# Altium integrated library STMicroelectronics STM32 F4.IntLib: 134 symbols (part 21 of 25)
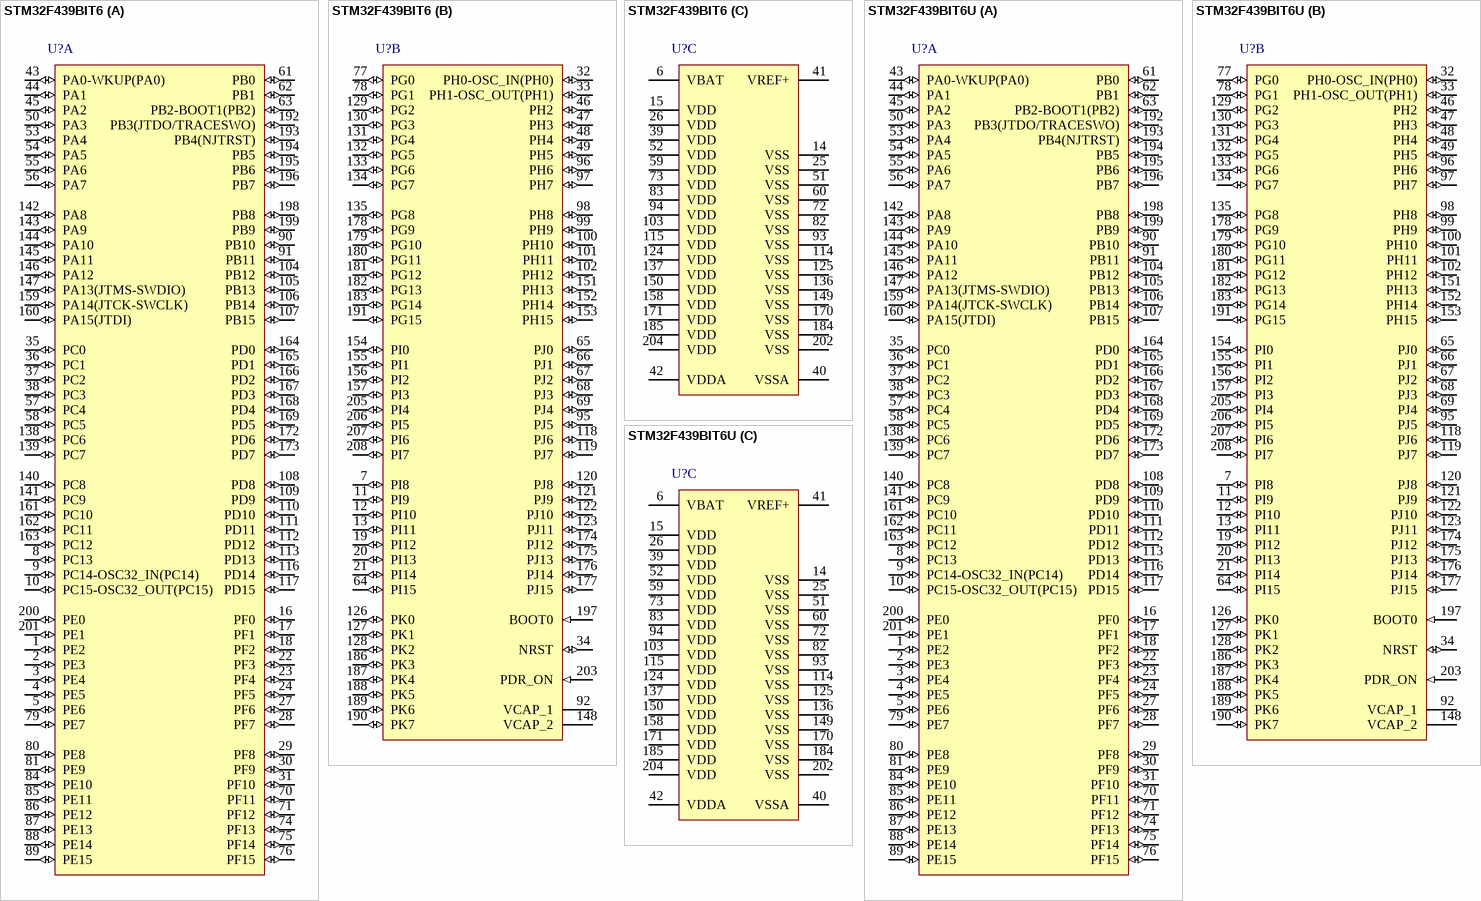
[diagram p59: symbols STM32F439BIT6 to STM32F439BIT6U]

## STM32F439BIT6
designator U?
ARM Cortex-M4 32-bit MCU+FPU, 225 DMIPS, 2048 kB Flash, 256 kB Internal RAM, 168 I/Os, 208-pin LQFP, -40 to 85 degC, Tray
footprint STM-LQFP208_N (QFP, 208-Leads, Body 28x28mm, Pitch 0.5mm, IPC Medium Density)
footprint STM-LQFP208_L (QFP, 208-Leads, Body 28x28mm, Pitch 0.5mm, IPC High Density)
footprint STM-LQFP208_M (QFP, 208-Leads, Body 28x28mm, Pitch 0.5mm, IPC Low Density)
part A pins: 1 PE2 (io) "PE2/TRACECLK,SPI4_SCK,SAI1_MCLK_A,ETH_MII_TXD3,FMC_A23,EVENTOUT", 2 PE3 (io) "PE3/TRACED0,SAI1_SD_B,FMC_A19,EVENTOUT", 3 PE4 (io) "PE4/TRACED1,SPI4_NSS,SAI1_FS_A,FMC_A20,DCMI_D4,LCD_B0,EVENTOUT", 4 PE5 (io) "PE5/TRACED2,TIM9_CH1,SPI4_MISO,SAI1_SCK_A,FMC_A21,DCMI_D6,LCD_G0,EVENTOUT", 5 PE6 (io) "PE6/TRACED3,TIM9_CH2,SPI4_MOSI,SAI1_SD_A,FMC_A22,DCMI_D7,LCD_G1,EVENTOUT", 8 PC13 (io) "PC13/EVENTOUT/TAMP_1", 9 PC14-OSC32_IN(PC14) (io) "PC14-OSC32_IN(PC14)/EVENTOUT/OSC32_IN", 10 PC15-OSC32_OUT(PC15) (io) "PC15-OSC32_OUT(PC15)/EVENTOUT/OSC32_OUT", 16 PF0 (io) "PF0/I2C2_SDA,FMC_A0,EVENTOUT", 17 PF1 (io) "PF1/I2C2_SCL,FMC_A1,EVENTOUT", 18 PF2 (io) "PF2/I2C2_SMBA,FMC_A2,EVENTOUT", 22 PF3 (io) "PF3/FMC_A3,EVENTOUT/ADC3_IN9", 23 PF4 (io) "PF4/FMC_A4,EVENTOUT/ADC3_IN14", 24 PF5 (io) "PF5/FMC_A5,EVENTOUT/ADC3_IN15", 27 PF6 (io) "PF6/TIM10_CH1,SPI5_NSS,SAI1_SD_B,UART7_RX,FMC_NIORD,EVENTOUT/ADC3_IN4", 28 PF7 (io) "PF7/TIM11_CH1,SPI5_SCK,SAI1_MCLK_B,UART7_TX,FMC_NREG,EVENTOUT/ADC3_IN5", 29 PF8 (io) "PF8/SPI5_MISO,SAI1_SCK_B,TIM13_CH1,FMC_NIOWR,EVENTOUT/ADC3_IN6", 30 PF9 (io) "PF9/SPI5_MOSI,SAI1_FS_B,TIM14_CH1,FMC_CD,EVENTOUT/ADC3_IN7", 31 PF10 (io) "PF10/FMC_INTR,DCMI_D11,LCD_DE,EVENTOUT/ADC3_IN8", 35 PC0 (io) "PC0/OTG_HS_ULPI_STP,FMC_SDNWE,EVENTOUT/ADC123_IN10", 36 PC1 (io) "PC1/ETH_MDC,EVENTOUT/ADC123_IN11", 37 PC2 (io) "PC2/SPI2_MISO,I2S2ext_SD,OTG_HS_ULPI_DIR,ETH_MII_TXD2,FMC_SDNE0,EVENTOUT/ADC123_IN12", 38 PC3 (io) "PC3/SPI2_MOSI/I2S2_SD,OTG_HS_ULPI_NXT,ETH_MII_TX_CLK,FMC_SDCKE0,EVENTOUT/ADC123_IN13", 43 PA0-WKUP(PA0) (io) "PA0-WKUP(PA0)/TIM2_CH1/TIM2_ETR,TIM5_CH1,TIM8_ETR,USART2_CTS,UART4_TX,ETH_MII_CRS,EVENTOUT/ADC123_IN0/WKUP", 44 PA1 (io) "PA1/TIM2_CH2,TIM5_CH2,USART2_RTS,UART4_RX,ETH_MII_RX_CLK/ETH_RMII_REF_CLK,EVENTOUT/ADC123_IN1", 45 PA2 (io) "PA2/TIM2_CH3,TIM5_CH3,TIM9_CH1,USART2_TX,ETH_MDIO,EVENTOUT/ADC123_IN2", 50 PA3 (io) "PA3/TIM2_CH4,TIM5_CH4,TIM9_CH2,USART2_RX,OTG_HS_ULPI_D0,ETH_MII_COL,LCD_B5,EVENTOUT/ADC123_IN3", 53 PA4 (io) "PA4/SPI1_NSS,SPI3_NSS/I2S3_WS,USART2_CK,OTG_HS_SOF,DCMI_HSYNC,LCD_VSYNC,EVENTOUT/ADC12_IN4/DAC_OUT1", 54 PA5 (io) "PA5/TIM2_CH1/TIM2_ETR,TIM8_CH1N,SPI1_SCK,OTG_HS_ULPI_CK,EVENTOUT/ADC12_IN5/DAC_OUT2", 55 PA6 (io) "PA6/TIM1_BKIN,TIM3_CH1,TIM8_BKIN,SPI1_MISO,TIM13_CH1,DCMI_PIXCLK,LCD_G2,EVENTOUT/ADC12_IN6", 56 PA7 (io) "PA7/TIM1_CH1N,TIM3_CH2,TIM8_CH1N,SPI1_MOSI,TIM14_CH1,ETH_MII_RX_DV/ETH_RMII_CRS_DV,EVENTOUT/ADC12_IN7", 57 PC4 (io) "PC4/ETH_MII_RXD0/ETH_RMII_RXD0,EVENTOUT/ADC12_IN14", 58 PC5 (io) "PC5/ETH_MII_RXD1/ETH_RMII_RXD1,EVENTOUT/ADC12_IN15", 61 PB0 (io) "PB0/TIM1_CH2N,TIM3_CH3,TIM8_CH2N,LCD_R3,OTG_HS_ULPI_D1,ETH_MII_RXD2,EVENTOUT/ADC12_IN8", 62 PB1 (io) "PB1/TIM1_CH3N,TIM3_CH4,TIM8_CH3N,LCD_R6,OTG_HS_ULPI_D2,ETH_MII_RXD3,EVENTOUT/ADC12_IN9", 63 PB2-BOOT1(PB2) (io) "PB2-BOOT1(PB2)/EVENTOUT", 70 PF11 (io) "PF11/SPI5_MOSI,FMC_SDNRAS,DCMI_D12,EVENTOUT", 71 PF12 (io) "PF12/FMC_A6,EVENTOUT", 74 PF13 (io) "PF13/FMC_A7,EVENTOUT", 75 PF14 (io) "PF14/FMC_A8,EVENTOUT", 76 PF15 (io) "PF15/FMC_A9,EVENTOUT", 79 PE7 (io) "PE7/TIM1_ETR,UART7_RX,FMC_D4,EVENTOUT", 80 PE8 (io) "PE8/TIM1_CH1N,UART7_TX,FMC_D5,EVENTOUT", 81 PE9 (io) "PE9/TIM1_CH1,FMC_D6,EVENTOUT", 84 PE10 (io) "PE10/TIM1_CH2N,FMC_D7,EVENTOUT", 85 PE11 (io) "PE11/TIM1_CH2,SPI4_NSS,FMC_D8,LCD_G3,EVENTOUT", 86 PE12 (io) "PE12/TIM1_CH3N,SPI4_SCK,FMC_D9,LCD_B4,EVENTOUT", 87 PE13 (io) "PE13/TIM1_CH3,SPI4_MISO,FMC_D10,LCD_DE,EVENTOUT", 88 PE14 (io) "PE14/TIM1_CH4,SPI4_MOSI,FMC_D11,LCD_CLK,EVENTOUT", 89 PE15 (io) "PE15/TIM1_BKIN,FMC_D12,LCD_R7,EVENTOUT", 90 PB10 (io) "PB10/TIM2_CH3,I2C2_SCL,SPI2_SCK/I2S2_CK,USART3_TX,OTG_HS_ULPI_D3,ETH_MII_RX_ER,LCD_G4,EVENTOUT", 91 PB11 (io) "PB11/TIM2_CH4,I2C2_SDA,USART3_RX,OTG_HS_ULPI_D4,ETH_MII_TX_EN/ETH_RMII_TX_EN,LCD_G5,EVENTOUT", 104 PB12 (io) "PB12/TIM1_BKIN,I2C2_SMBA,SPI2_NSS/I2S2_WS,USART3_CK,CAN2_RX,OTG_HS_ULPI_D5,ETH_MII_TXD0/ETH_RMII_TXD0,OTG_HS_ID,EVENTOUT", 105 PB13 (io) "PB13/TIM1_CH1N,SPI2_SCK/I2S2_CK,USART3_CTS,CAN2_TX,OTG_HS_ULPI_D6,ETH_MII_TXD1/ETH_RMII_TXD1,EVENTOUT/OTG_HS_VBUS", 106 PB14 (io) "PB14/TIM1_CH2N,TIM8_CH2N,SPI2_MISO,I2S2ext_SD,USART3_RTS,TIM12_CH1,EVENTOUT/OTG_HS_DM", 107 PB15 (io) "PB15/RTC_REFIN,TIM1_CH3N,TIM8_CH3N,SPI2_MOSI/I2S2_SD,TIM12_CH2,EVENTOUT/OTG_HS_DP", 108 PD8 (io) "PD8/USART3_TX,FMC_D13,EVENTOUT", 109 PD9 (io) "PD9/USART3_RX,FMC_D14,EVENTOUT", 110 PD10 (io) "PD10/USART3_CK,FMC_D15,LCD_B3,EVENTOUT", 111 PD11 (io) "PD11/USART3_CTS,FMC_A16,EVENTOUT", 112 PD12 (io) "PD12/TIM4_CH1,USART3_RTS,FMC_A17,EVENTOUT", 113 PD13 (io) "PD13/TIM4_CH2,FMC_A18,EVENTOUT", 116 PD14 (io) "PD14/TIM4_CH3,FMC_D0,EVENTOUT", 117 PD15 (io) "PD15/TIM4_CH4,FMC_D1,EVENTOUT", 138 PC6 (io) "PC6/TIM3_CH1,TIM8_CH1,I2S2_MCK,USART6_TX,SDIO_D6,DCMI_D0,LCD_HSYNC,EVENTOUT", 139 PC7 (io) "PC7/TIM3_CH2,TIM8_CH2,I2S3_MCK,USART6_RX,SDIO_D7,DCMI_D1,LCD_G6,EVENTOUT", 140 PC8 (io) "PC8/TIM3_CH3,TIM8_CH3,USART6_CK,SDIO_D0,DCMI_D2,EVENTOUT", 141 PC9 (io) "PC9/MCO2,TIM3_CH4,TIM8_CH4,I2C3_SDA,I2S_CKIN,SDIO_D1,DCMI_D3,EVENTOUT", 142 PA8 (io) "PA8/MCO1,TIM1_CH1,I2C3_SCL,USART1_CK,OTG_FS_SOF,LCD_R6,EVENTOUT", 143 PA9 (io) "PA9/TIM1_CH2,I2C3_SMBA,USART1_TX,DCMI_D0,EVENTOUT/OTG_FS_VBUS", 144 PA10 (io) "PA10/TIM1_CH3,USART1_RX,OTG_FS_ID,DCMI_D1,EVENTOUT", 145 PA11 (io) "PA11/TIM1_CH4,USART1_CTS,CAN1_RX,LCD_R4,EVENTOUT/OTG_FS_DM", 146 PA12 (io) "PA12/TIM1_ETR,USART1_RTS,CAN1_TX,LCD_R5,EVENTOUT/OTG_FS_DP", 147 PA13(JTMS-SWDIO) (io) "PA13(JTMS-SWDIO)/JTMS-SWDIO,EVENTOUT", 159 PA14(JTCK-SWCLK) (io) "PA14(JTCK-SWCLK)/JTCK-SWCLK/EVENTOUT", 160 PA15(JTDI) (io) "PA15(JTDI)/JTDI,TIM2_CH1/TIM2_ETR,SPI1_NSS,SPI3_NSS/I2S3_WS,EVENTOUT", 161 PC10 (io) "PC10/SPI3_SCK/I2S3_CK,USART3_TX,UART4_TX,SDIO_D2,DCMI_D8,LCD_R2,EVENTOUT", 162 PC11 (io) "PC11/I2S3ext_SD,SPI3_MISO,USART3_RX,UART4_RX,SDIO_D3,DCMI_D4,EVENTOUT", 163 PC12 (io) "PC12/SPI3_MOSI/I2S3_SD,USART3_CK,UART5_TX,SDIO_CK,DCMI_D9,EVENTOUT", 164 PD0 (io) "PD0/CAN1_RX,FMC_D2,EVENTOUT", 165 PD1 (io) "PD1/CAN1_TX,FMC_D3,EVENTOUT", 166 PD2 (io) "PD2/TIM3_ETR,UART5_RX,SDIO_CMD,DCMI_D11,EVENTOUT", 167 PD3 (io) "PD3/SPI2_SCK/I2S2_CK,USART2_CTS,FMC_CLK,DCMI_D5,LCD_G7,EVENTOUT", 168 PD4 (io) "PD4/USART2_RTS,FMC_NOE,EVENTOUT", 169 PD5 (io) "PD5/USART2_TX,FMC_NWE,EVENTOUT", 172 PD6 (io) "PD6/SPI3_MOSI/I2S3_SD,SAI1_SD_A,USART2_RX,FMC_NWAIT,DCMI_D10,LCD_B2,EVENTOUT", 173 PD7 (io) "PD7/USART2_CK,FMC_NE1/FMC_NCE2,EVENTOUT", 192 PB3(JTDO/TRACESWO) (io) "PB3(JTDO/TRACESWO)/JTDO/TRACESWO,TIM2_CH2,SPI1_SCK,SPI3_SCK/I2S3_CK,EVENTOUT", 193 PB4(NJTRST) (io) "PB4(NJTRST)/NJTRST,TIM3_CH1,SPI1_MISO,SPI3_MISO,I2S3ext_SD,EVENTOUT", 194 PB5 (io) "PB5/TIM3_CH2,I2C1_SMBA,SPI1_MOSI,SPI3_MOSI/I2S3_SD,CAN2_RX,OTG_HS_ULPI_D7,ETH_PPS_OUT,FMC_SDCKE1,DCMI_D10,EVENTOUT", 195 PB6 (io) "PB6/TIM4_CH1,I2C1_SCL,USART1_TX,CAN2_TX,FMC_SDNE1,DCMI_D5,EVENTOUT", 196 PB7 (io) "PB7/TIM4_CH2,I2C1_SDA,USART1_RX,FMC_NL,DCMI_VSYNC,EVENTOUT", 198 PB8 (io) "PB8/TIM4_CH3,TIM10_CH1,I2C1_SCL,CAN1_RX,ETH_MII_TXD3,SDIO_D4,DCMI_D6,LCD_B6,EVENTOUT", 199 PB9 (io) "PB9/TIM4_CH4,TIM11_CH1,I2C1_SDA,SPI2_NSS/I2S2_WS,CAN1_TX,SDIO_D5,DCMI_D7,LCD_B7,EVENTOUT", 200 PE0 (io) "PE0/TIM4_ETR,UART8_RX,FMC_NBL0,DCMI_D2,EVENTOUT", 201 PE1 (io) "PE1/UART8_TX,FMC_NBL1,DCMI_D3,EVENTOUT"
part B pins: 7 PI8 (io) "PI8/EVENTOUT/TAMP_2", 11 PI9 (io) "PI9/CAN1_RX,FMC_D30,LCD_VSYNC,EVENTOUT", 12 PI10 (io) "PI10/ETH_MII_RX_ER,FMC_D31,LCD_HSYNC,EVENTOUT", 13 PI11 (io) "PI11/OTG_HS_ULPI_DIR,EVENTOUT", 19 PI12 (io) "PI12/LCD_HSYNC,EVENTOUT", 20 PI13 (io) "PI13/LCD_VSYNC,EVENTOUT", 21 PI14 (io) "PI14/LCD_CLK,EVENTOUT", 32 PH0-OSC_IN(PH0) (io) "PH0-OSC_IN(PH0)/EVENTOUT/OSC_IN", 33 PH1-OSC_OUT(PH1) (io) "PH1-OSC_OUT(PH1)/EVENTOUT/OSC_OUT", 34 NRST (io), 46 PH2 (io) "PH2/ETH_MII_CRS,FMC_SDCKE0,LCD_R0,EVENTOUT", 47 PH3 (io) "PH3/ETH_MII_COL,FMC_SDNE0,LCD_R1,EVENTOUT", 48 PH4 (io) "PH4/I2C2_SCL,OTG_HS_ULPI_NXT,EVENTOUT", 49 PH5 (io) "PH5/I2C2_SDA,SPI5_NSS,FMC_SDNWE,EVENTOUT", 64 PI15 (io) "PI15/LCD_R0,EVENTOUT", 65 PJ0 (io) "PJ0/LCD_R1,EVENTOUT", 66 PJ1 (io) "PJ1/LCD_R2,EVENTOUT", 67 PJ2 (io) "PJ2/LCD_R3,EVENTOUT", 68 PJ3 (io) "PJ3/LCD_R4,EVENTOUT", 69 PJ4 (io) "PJ4/LCD_R5,EVENTOUT", 77 PG0 (io) "PG0/FMC_A10,EVENTOUT", 78 PG1 (io) "PG1/FMC_A11,EVENTOUT", 92 VCAP_1 (power), 95 PJ5 (io) "PJ5/LCD_R6,EVENTOUT", 96 PH6 (io) "PH6/I2C2_SMBA,SPI5_SCK,TIM12_CH1,ETH_MII_RXD2,FMC_SDNE1,DCMI_D8,EVENTOUT", 97 PH7 (io) "PH7/I2C3_SCL,SPI5_MISO,ETH_MII_RXD3,FMC_SDCKE1,DCMI_D9,EVENTOUT", 98 PH8 (io) "PH8/I2C3_SDA,FMC_D16,DCMI_HSYNC,LCD_R2,EVENTOUT", 99 PH9 (io) "PH9/I2C3_SMBA,TIM12_CH2,FMC_D17,DCMI_D0,LCD_R3,EVENTOUT", 100 PH10 (io) "PH10/TIM5_CH1,FMC_D18,DCMI_D1,LCD_R4,EVENTOUT", 101 PH11 (io) "PH11/TIM5_CH2,FMC_D19,DCMI_D2,LCD_R5,EVENTOUT", 102 PH12 (io) "PH12/TIM5_CH3,FMC_D20,DCMI_D3,LCD_R6,EVENTOUT", 118 PJ6 (io) "PJ6/LCD_R7,EVENTOUT", 119 PJ7 (io) "PJ7/LCD_G0,EVENTOUT", 120 PJ8 (io) "PJ8/LCD_G1,EVENTOUT", 121 PJ9 (io) "PJ9/LCD_G2,EVENTOUT", 122 PJ10 (io) "PJ10/LCD_G3,EVENTOUT", 123 PJ11 (io) "PJ11/LCD_G4,EVENTOUT", 126 PK0 (io) "PK0/LCD_G5,EVENTOUT", 127 PK1 (io) "PK1/LCD_G6,EVENTOUT", 128 PK2 (io) "PK2/LCD_G7,EVENTOUT", 129 PG2 (io) "PG2/FMC_A12,EVENTOUT", 130 PG3 (io) "PG3/FMC_A13,EVENTOUT", 131 PG4 (io) "PG4/FMC_A14/FMC_BA0,EVENTOUT", 132 PG5 (io) "PG5/FMC_A15/FMC_BA1,EVENTOUT", 133 PG6 (io) "PG6/FMC_INT2,DCMI_D12,LCD_R7,EVENTOUT", 134 PG7 (io) "PG7/USART6_CK,FMC_INT3,DCMI_D13,LCD_CLK,EVENTOUT", 135 PG8 (io) "PG8/SPI6_NSS,USART6_RTS,ETH_PPS_OUT,FMC_SDCLK,EVENTOUT", 148 VCAP_2 (power), 151 PH13 (io) "PH13/TIM8_CH1N,CAN1_TX,FMC_D21,LCD_G2,EVENTOUT", 152 PH14 (io) "PH14/TIM8_CH2N,FMC_D22,DCMI_D4,LCD_G3,EVENTOUT", 153 PH15 (io) "PH15/TIM8_CH3N,FMC_D23,DCMI_D11,LCD_G4,EVENTOUT", 154 PI0 (io) "PI0/TIM5_CH4,SPI2_NSS/I2S2_WS,FMC_D24,DCMI_D13,LCD_G5,EVENTOUT", 155 PI1 (io) "PI1/SPI2_SCK/I2S2_CK,FMC_D25,DCMI_D8,LCD_G6,EVENTOUT", 156 PI2 (io) "PI2/TIM8_CH4,SPI2_MISO,I2S2ext_SD,FMC_D26,DCMI_D9,LCD_G7,EVENTOUT", 157 PI3 (io) "PI3/TIM8_ETR,SPI2_MOSI/I2S2_SD,FMC_D27,DCMI_D10,EVENTOUT", 174 PJ12 (io) "PJ12/LCD_B0,EVENTOUT", 175 PJ13 (io) "PJ13/LCD_B1,EVENTOUT", 176 PJ14 (io) "PJ14/LCD_B2,EVENTOUT", 177 PJ15 (io) "PJ15/LCD_B3,EVENTOUT", 178 PG9 (io) "PG9/USART6_RX,FMC_NE2/FMC_NCE3,EVENTOUT", 179 PG10 (io) "PG10/LCD_G3,FMC_NCE4_1/FMC_NE3,DCMI_D2,LCD_B2,EVENTOUT", 180 PG11 (io) "PG11/ETH_MII_TX_EN/ETH_RMII_TX_EN,FMC_NCE4_2,DCMI_D3,LCD_B3,EVENTOUT", 181 PG12 (io) "PG12/SPI6_MISO,USART6_RTS,LCD_B4,FMC_NE4,LCD_B1,EVENTOUT", 182 PG13 (io) "PG13/SPI6_SCK,USART6_CTS,ETH_MII_TXD0/ETH_RMII_TXD0,FMC_A24,EVENTOUT", 183 PG14 (io) "PG14/SPI6_MOSI,USART6_TX,ETH_MII_TXD1/ETH_RMII_TXD1,FMC_A25,EVENTOUT", 186 PK3 (io) "PK3/LCD_B4,EVENTOUT", 187 PK4 (io) "PK4/LCD_B5,EVENTOUT", 188 PK5 (io) "PK5/LCD_B6,EVENTOUT", 189 PK6 (io) "PK6/LCD_B7,EVENTOUT", 190 PK7 (io) "PK7/LCD_DE,EVENTOUT", 191 PG15 (io) "PG15/USART6_CTS,FMC_SDNCAS,DCMI_D13,EVENTOUT", 197 BOOT0 (in) "BOOT0/VPP", 203 PDR_ON (in), 205 PI4 (io) "PI4/TIM8_BKIN,FMC_NBL2,DCMI_D5,LCD_B4,EVENTOUT", 206 PI5 (io) "PI5/TIM8_CH1,FMC_NBL3,DCMI_VSYNC,LCD_B5,EVENTOUT", 207 PI6 (io) "PI6/TIM8_CH2,FMC_D28,DCMI_D6,LCD_B6,EVENTOUT", 208 PI7 (io) "PI7/TIM8_CH3,FMC_D29,DCMI_D7,LCD_B7,EVENTOUT"
part C pins: 6 VBAT (power), 14 VSS (power), 15 VDD (power), 25 VSS (power), 26 VDD (power), 39 VDD (power), 40 VSSA (power), 41 VREF+ (power), 42 VDDA (power), 51 VSS (power), 52 VDD (power), 59 VDD (power), 60 VSS (power), 72 VSS (power), 73 VDD (power), 82 VSS (power), 83 VDD (power), 93 VSS (power), 94 VDD (power), 103 VDD (power), 114 VSS (power), 115 VDD (power), 124 VDD (power), 125 VSS (power), 136 VSS (power), 137 VDD (power), 149 VSS (power), 150 VDD (power), 158 VDD (power), 170 VSS (power), 171 VDD (power), 184 VSS (power), 185 VDD (power), 202 VSS (power), 204 VDD (power)

## STM32F439BIT6U
designator U?
ARM Cortex-M4 32-bit MCU+FPU, 225 DMIPS, 2048 kB Flash, 256 kB Internal RAM, 168 I/Os, 208-pin LQFP, -40 to 85 degC, Tray
footprint STM-LQFP208_N (QFP, 208-Leads, Body 28x28mm, Pitch 0.5mm, IPC Medium Density)
footprint STM-LQFP208_L (QFP, 208-Leads, Body 28x28mm, Pitch 0.5mm, IPC High Density)
footprint STM-LQFP208_M (QFP, 208-Leads, Body 28x28mm, Pitch 0.5mm, IPC Low Density)
part A pins: 1 PE2 (io) "PE2/TRACECLK,SPI4_SCK,SAI1_MCLK_A,ETH_MII_TXD3,FMC_A23,EVENTOUT", 2 PE3 (io) "PE3/TRACED0,SAI1_SD_B,FMC_A19,EVENTOUT", 3 PE4 (io) "PE4/TRACED1,SPI4_NSS,SAI1_FS_A,FMC_A20,DCMI_D4,LCD_B0,EVENTOUT", 4 PE5 (io) "PE5/TRACED2,TIM9_CH1,SPI4_MISO,SAI1_SCK_A,FMC_A21,DCMI_D6,LCD_G0,EVENTOUT", 5 PE6 (io) "PE6/TRACED3,TIM9_CH2,SPI4_MOSI,SAI1_SD_A,FMC_A22,DCMI_D7,LCD_G1,EVENTOUT", 8 PC13 (io) "PC13/EVENTOUT/TAMP_1", 9 PC14-OSC32_IN(PC14) (io) "PC14-OSC32_IN(PC14)/EVENTOUT/OSC32_IN", 10 PC15-OSC32_OUT(PC15) (io) "PC15-OSC32_OUT(PC15)/EVENTOUT/OSC32_OUT", 16 PF0 (io) "PF0/I2C2_SDA,FMC_A0,EVENTOUT", 17 PF1 (io) "PF1/I2C2_SCL,FMC_A1,EVENTOUT", 18 PF2 (io) "PF2/I2C2_SMBA,FMC_A2,EVENTOUT", 22 PF3 (io) "PF3/FMC_A3,EVENTOUT/ADC3_IN9", 23 PF4 (io) "PF4/FMC_A4,EVENTOUT/ADC3_IN14", 24 PF5 (io) "PF5/FMC_A5,EVENTOUT/ADC3_IN15", 27 PF6 (io) "PF6/TIM10_CH1,SPI5_NSS,SAI1_SD_B,UART7_RX,FMC_NIORD,EVENTOUT/ADC3_IN4", 28 PF7 (io) "PF7/TIM11_CH1,SPI5_SCK,SAI1_MCLK_B,UART7_TX,FMC_NREG,EVENTOUT/ADC3_IN5", 29 PF8 (io) "PF8/SPI5_MISO,SAI1_SCK_B,TIM13_CH1,FMC_NIOWR,EVENTOUT/ADC3_IN6", 30 PF9 (io) "PF9/SPI5_MOSI,SAI1_FS_B,TIM14_CH1,FMC_CD,EVENTOUT/ADC3_IN7", 31 PF10 (io) "PF10/FMC_INTR,DCMI_D11,LCD_DE,EVENTOUT/ADC3_IN8", 35 PC0 (io) "PC0/OTG_HS_ULPI_STP,FMC_SDNWE,EVENTOUT/ADC123_IN10", 36 PC1 (io) "PC1/ETH_MDC,EVENTOUT/ADC123_IN11", 37 PC2 (io) "PC2/SPI2_MISO,I2S2ext_SD,OTG_HS_ULPI_DIR,ETH_MII_TXD2,FMC_SDNE0,EVENTOUT/ADC123_IN12", 38 PC3 (io) "PC3/SPI2_MOSI/I2S2_SD,OTG_HS_ULPI_NXT,ETH_MII_TX_CLK,FMC_SDCKE0,EVENTOUT/ADC123_IN13", 43 PA0-WKUP(PA0) (io) "PA0-WKUP(PA0)/TIM2_CH1/TIM2_ETR,TIM5_CH1,TIM8_ETR,USART2_CTS,UART4_TX,ETH_MII_CRS,EVENTOUT/ADC123_IN0/WKUP", 44 PA1 (io) "PA1/TIM2_CH2,TIM5_CH2,USART2_RTS,UART4_RX,ETH_MII_RX_CLK/ETH_RMII_REF_CLK,EVENTOUT/ADC123_IN1", 45 PA2 (io) "PA2/TIM2_CH3,TIM5_CH3,TIM9_CH1,USART2_TX,ETH_MDIO,EVENTOUT/ADC123_IN2", 50 PA3 (io) "PA3/TIM2_CH4,TIM5_CH4,TIM9_CH2,USART2_RX,OTG_HS_ULPI_D0,ETH_MII_COL,LCD_B5,EVENTOUT/ADC123_IN3", 53 PA4 (io) "PA4/SPI1_NSS,SPI3_NSS/I2S3_WS,USART2_CK,OTG_HS_SOF,DCMI_HSYNC,LCD_VSYNC,EVENTOUT/ADC12_IN4/DAC_OUT1", 54 PA5 (io) "PA5/TIM2_CH1/TIM2_ETR,TIM8_CH1N,SPI1_SCK,OTG_HS_ULPI_CK,EVENTOUT/ADC12_IN5/DAC_OUT2", 55 PA6 (io) "PA6/TIM1_BKIN,TIM3_CH1,TIM8_BKIN,SPI1_MISO,TIM13_CH1,DCMI_PIXCLK,LCD_G2,EVENTOUT/ADC12_IN6", 56 PA7 (io) "PA7/TIM1_CH1N,TIM3_CH2,TIM8_CH1N,SPI1_MOSI,TIM14_CH1,ETH_MII_RX_DV/ETH_RMII_CRS_DV,EVENTOUT/ADC12_IN7", 57 PC4 (io) "PC4/ETH_MII_RXD0/ETH_RMII_RXD0,EVENTOUT/ADC12_IN14", 58 PC5 (io) "PC5/ETH_MII_RXD1/ETH_RMII_RXD1,EVENTOUT/ADC12_IN15", 61 PB0 (io) "PB0/TIM1_CH2N,TIM3_CH3,TIM8_CH2N,LCD_R3,OTG_HS_ULPI_D1,ETH_MII_RXD2,EVENTOUT/ADC12_IN8", 62 PB1 (io) "PB1/TIM1_CH3N,TIM3_CH4,TIM8_CH3N,LCD_R6,OTG_HS_ULPI_D2,ETH_MII_RXD3,EVENTOUT/ADC12_IN9", 63 PB2-BOOT1(PB2) (io) "PB2-BOOT1(PB2)/EVENTOUT", 70 PF11 (io) "PF11/SPI5_MOSI,FMC_SDNRAS,DCMI_D12,EVENTOUT", 71 PF12 (io) "PF12/FMC_A6,EVENTOUT", 74 PF13 (io) "PF13/FMC_A7,EVENTOUT", 75 PF14 (io) "PF14/FMC_A8,EVENTOUT", 76 PF15 (io) "PF15/FMC_A9,EVENTOUT", 79 PE7 (io) "PE7/TIM1_ETR,UART7_RX,FMC_D4,EVENTOUT", 80 PE8 (io) "PE8/TIM1_CH1N,UART7_TX,FMC_D5,EVENTOUT", 81 PE9 (io) "PE9/TIM1_CH1,FMC_D6,EVENTOUT", 84 PE10 (io) "PE10/TIM1_CH2N,FMC_D7,EVENTOUT", 85 PE11 (io) "PE11/TIM1_CH2,SPI4_NSS,FMC_D8,LCD_G3,EVENTOUT", 86 PE12 (io) "PE12/TIM1_CH3N,SPI4_SCK,FMC_D9,LCD_B4,EVENTOUT", 87 PE13 (io) "PE13/TIM1_CH3,SPI4_MISO,FMC_D10,LCD_DE,EVENTOUT", 88 PE14 (io) "PE14/TIM1_CH4,SPI4_MOSI,FMC_D11,LCD_CLK,EVENTOUT", 89 PE15 (io) "PE15/TIM1_BKIN,FMC_D12,LCD_R7,EVENTOUT", 90 PB10 (io) "PB10/TIM2_CH3,I2C2_SCL,SPI2_SCK/I2S2_CK,USART3_TX,OTG_HS_ULPI_D3,ETH_MII_RX_ER,LCD_G4,EVENTOUT", 91 PB11 (io) "PB11/TIM2_CH4,I2C2_SDA,USART3_RX,OTG_HS_ULPI_D4,ETH_MII_TX_EN/ETH_RMII_TX_EN,LCD_G5,EVENTOUT", 104 PB12 (io) "PB12/TIM1_BKIN,I2C2_SMBA,SPI2_NSS/I2S2_WS,USART3_CK,CAN2_RX,OTG_HS_ULPI_D5,ETH_MII_TXD0/ETH_RMII_TXD0,OTG_HS_ID,EVENTOUT", 105 PB13 (io) "PB13/TIM1_CH1N,SPI2_SCK/I2S2_CK,USART3_CTS,CAN2_TX,OTG_HS_ULPI_D6,ETH_MII_TXD1/ETH_RMII_TXD1,EVENTOUT/OTG_HS_VBUS", 106 PB14 (io) "PB14/TIM1_CH2N,TIM8_CH2N,SPI2_MISO,I2S2ext_SD,USART3_RTS,TIM12_CH1,EVENTOUT/OTG_HS_DM", 107 PB15 (io) "PB15/RTC_REFIN,TIM1_CH3N,TIM8_CH3N,SPI2_MOSI/I2S2_SD,TIM12_CH2,EVENTOUT/OTG_HS_DP", 108 PD8 (io) "PD8/USART3_TX,FMC_D13,EVENTOUT", 109 PD9 (io) "PD9/USART3_RX,FMC_D14,EVENTOUT", 110 PD10 (io) "PD10/USART3_CK,FMC_D15,LCD_B3,EVENTOUT", 111 PD11 (io) "PD11/USART3_CTS,FMC_A16,EVENTOUT", 112 PD12 (io) "PD12/TIM4_CH1,USART3_RTS,FMC_A17,EVENTOUT", 113 PD13 (io) "PD13/TIM4_CH2,FMC_A18,EVENTOUT", 116 PD14 (io) "PD14/TIM4_CH3,FMC_D0,EVENTOUT", 117 PD15 (io) "PD15/TIM4_CH4,FMC_D1,EVENTOUT", 138 PC6 (io) "PC6/TIM3_CH1,TIM8_CH1,I2S2_MCK,USART6_TX,SDIO_D6,DCMI_D0,LCD_HSYNC,EVENTOUT", 139 PC7 (io) "PC7/TIM3_CH2,TIM8_CH2,I2S3_MCK,USART6_RX,SDIO_D7,DCMI_D1,LCD_G6,EVENTOUT", 140 PC8 (io) "PC8/TIM3_CH3,TIM8_CH3,USART6_CK,SDIO_D0,DCMI_D2,EVENTOUT", 141 PC9 (io) "PC9/MCO2,TIM3_CH4,TIM8_CH4,I2C3_SDA,I2S_CKIN,SDIO_D1,DCMI_D3,EVENTOUT", 142 PA8 (io) "PA8/MCO1,TIM1_CH1,I2C3_SCL,USART1_CK,OTG_FS_SOF,LCD_R6,EVENTOUT", 143 PA9 (io) "PA9/TIM1_CH2,I2C3_SMBA,USART1_TX,DCMI_D0,EVENTOUT/OTG_FS_VBUS", 144 PA10 (io) "PA10/TIM1_CH3,USART1_RX,OTG_FS_ID,DCMI_D1,EVENTOUT", 145 PA11 (io) "PA11/TIM1_CH4,USART1_CTS,CAN1_RX,LCD_R4,EVENTOUT/OTG_FS_DM", 146 PA12 (io) "PA12/TIM1_ETR,USART1_RTS,CAN1_TX,LCD_R5,EVENTOUT/OTG_FS_DP", 147 PA13(JTMS-SWDIO) (io) "PA13(JTMS-SWDIO)/JTMS-SWDIO,EVENTOUT", 159 PA14(JTCK-SWCLK) (io) "PA14(JTCK-SWCLK)/JTCK-SWCLK/EVENTOUT", 160 PA15(JTDI) (io) "PA15(JTDI)/JTDI,TIM2_CH1/TIM2_ETR,SPI1_NSS,SPI3_NSS/I2S3_WS,EVENTOUT", 161 PC10 (io) "PC10/SPI3_SCK/I2S3_CK,USART3_TX,UART4_TX,SDIO_D2,DCMI_D8,LCD_R2,EVENTOUT", 162 PC11 (io) "PC11/I2S3ext_SD,SPI3_MISO,USART3_RX,UART4_RX,SDIO_D3,DCMI_D4,EVENTOUT", 163 PC12 (io) "PC12/SPI3_MOSI/I2S3_SD,USART3_CK,UART5_TX,SDIO_CK,DCMI_D9,EVENTOUT", 164 PD0 (io) "PD0/CAN1_RX,FMC_D2,EVENTOUT", 165 PD1 (io) "PD1/CAN1_TX,FMC_D3,EVENTOUT", 166 PD2 (io) "PD2/TIM3_ETR,UART5_RX,SDIO_CMD,DCMI_D11,EVENTOUT", 167 PD3 (io) "PD3/SPI2_SCK/I2S2_CK,USART2_CTS,FMC_CLK,DCMI_D5,LCD_G7,EVENTOUT", 168 PD4 (io) "PD4/USART2_RTS,FMC_NOE,EVENTOUT", 169 PD5 (io) "PD5/USART2_TX,FMC_NWE,EVENTOUT", 172 PD6 (io) "PD6/SPI3_MOSI/I2S3_SD,SAI1_SD_A,USART2_RX,FMC_NWAIT,DCMI_D10,LCD_B2,EVENTOUT", 173 PD7 (io) "PD7/USART2_CK,FMC_NE1/FMC_NCE2,EVENTOUT", 192 PB3(JTDO/TRACESWO) (io) "PB3(JTDO/TRACESWO)/JTDO/TRACESWO,TIM2_CH2,SPI1_SCK,SPI3_SCK/I2S3_CK,EVENTOUT", 193 PB4(NJTRST) (io) "PB4(NJTRST)/NJTRST,TIM3_CH1,SPI1_MISO,SPI3_MISO,I2S3ext_SD,EVENTOUT", 194 PB5 (io) "PB5/TIM3_CH2,I2C1_SMBA,SPI1_MOSI,SPI3_MOSI/I2S3_SD,CAN2_RX,OTG_HS_ULPI_D7,ETH_PPS_OUT,FMC_SDCKE1,DCMI_D10,EVENTOUT", 195 PB6 (io) "PB6/TIM4_CH1,I2C1_SCL,USART1_TX,CAN2_TX,FMC_SDNE1,DCMI_D5,EVENTOUT", 196 PB7 (io) "PB7/TIM4_CH2,I2C1_SDA,USART1_RX,FMC_NL,DCMI_VSYNC,EVENTOUT", 198 PB8 (io) "PB8/TIM4_CH3,TIM10_CH1,I2C1_SCL,CAN1_RX,ETH_MII_TXD3,SDIO_D4,DCMI_D6,LCD_B6,EVENTOUT", 199 PB9 (io) "PB9/TIM4_CH4,TIM11_CH1,I2C1_SDA,SPI2_NSS/I2S2_WS,CAN1_TX,SDIO_D5,DCMI_D7,LCD_B7,EVENTOUT", 200 PE0 (io) "PE0/TIM4_ETR,UART8_RX,FMC_NBL0,DCMI_D2,EVENTOUT", 201 PE1 (io) "PE1/UART8_TX,FMC_NBL1,DCMI_D3,EVENTOUT"
part B pins: 7 PI8 (io) "PI8/EVENTOUT/TAMP_2", 11 PI9 (io) "PI9/CAN1_RX,FMC_D30,LCD_VSYNC,EVENTOUT", 12 PI10 (io) "PI10/ETH_MII_RX_ER,FMC_D31,LCD_HSYNC,EVENTOUT", 13 PI11 (io) "PI11/OTG_HS_ULPI_DIR,EVENTOUT", 19 PI12 (io) "PI12/LCD_HSYNC,EVENTOUT", 20 PI13 (io) "PI13/LCD_VSYNC,EVENTOUT", 21 PI14 (io) "PI14/LCD_CLK,EVENTOUT", 32 PH0-OSC_IN(PH0) (io) "PH0-OSC_IN(PH0)/EVENTOUT/OSC_IN", 33 PH1-OSC_OUT(PH1) (io) "PH1-OSC_OUT(PH1)/EVENTOUT/OSC_OUT", 34 NRST (io), 46 PH2 (io) "PH2/ETH_MII_CRS,FMC_SDCKE0,LCD_R0,EVENTOUT", 47 PH3 (io) "PH3/ETH_MII_COL,FMC_SDNE0,LCD_R1,EVENTOUT", 48 PH4 (io) "PH4/I2C2_SCL,OTG_HS_ULPI_NXT,EVENTOUT", 49 PH5 (io) "PH5/I2C2_SDA,SPI5_NSS,FMC_SDNWE,EVENTOUT", 64 PI15 (io) "PI15/LCD_R0,EVENTOUT", 65 PJ0 (io) "PJ0/LCD_R1,EVENTOUT", 66 PJ1 (io) "PJ1/LCD_R2,EVENTOUT", 67 PJ2 (io) "PJ2/LCD_R3,EVENTOUT", 68 PJ3 (io) "PJ3/LCD_R4,EVENTOUT", 69 PJ4 (io) "PJ4/LCD_R5,EVENTOUT", 77 PG0 (io) "PG0/FMC_A10,EVENTOUT", 78 PG1 (io) "PG1/FMC_A11,EVENTOUT", 92 VCAP_1 (power), 95 PJ5 (io) "PJ5/LCD_R6,EVENTOUT", 96 PH6 (io) "PH6/I2C2_SMBA,SPI5_SCK,TIM12_CH1,ETH_MII_RXD2,FMC_SDNE1,DCMI_D8,EVENTOUT", 97 PH7 (io) "PH7/I2C3_SCL,SPI5_MISO,ETH_MII_RXD3,FMC_SDCKE1,DCMI_D9,EVENTOUT", 98 PH8 (io) "PH8/I2C3_SDA,FMC_D16,DCMI_HSYNC,LCD_R2,EVENTOUT", 99 PH9 (io) "PH9/I2C3_SMBA,TIM12_CH2,FMC_D17,DCMI_D0,LCD_R3,EVENTOUT", 100 PH10 (io) "PH10/TIM5_CH1,FMC_D18,DCMI_D1,LCD_R4,EVENTOUT", 101 PH11 (io) "PH11/TIM5_CH2,FMC_D19,DCMI_D2,LCD_R5,EVENTOUT", 102 PH12 (io) "PH12/TIM5_CH3,FMC_D20,DCMI_D3,LCD_R6,EVENTOUT", 118 PJ6 (io) "PJ6/LCD_R7,EVENTOUT", 119 PJ7 (io) "PJ7/LCD_G0,EVENTOUT", 120 PJ8 (io) "PJ8/LCD_G1,EVENTOUT", 121 PJ9 (io) "PJ9/LCD_G2,EVENTOUT", 122 PJ10 (io) "PJ10/LCD_G3,EVENTOUT", 123 PJ11 (io) "PJ11/LCD_G4,EVENTOUT", 126 PK0 (io) "PK0/LCD_G5,EVENTOUT", 127 PK1 (io) "PK1/LCD_G6,EVENTOUT", 128 PK2 (io) "PK2/LCD_G7,EVENTOUT", 129 PG2 (io) "PG2/FMC_A12,EVENTOUT", 130 PG3 (io) "PG3/FMC_A13,EVENTOUT", 131 PG4 (io) "PG4/FMC_A14/FMC_BA0,EVENTOUT", 132 PG5 (io) "PG5/FMC_A15/FMC_BA1,EVENTOUT", 133 PG6 (io) "PG6/FMC_INT2,DCMI_D12,LCD_R7,EVENTOUT", 134 PG7 (io) "PG7/USART6_CK,FMC_INT3,DCMI_D13,LCD_CLK,EVENTOUT", 135 PG8 (io) "PG8/SPI6_NSS,USART6_RTS,ETH_PPS_OUT,FMC_SDCLK,EVENTOUT", 148 VCAP_2 (power), 151 PH13 (io) "PH13/TIM8_CH1N,CAN1_TX,FMC_D21,LCD_G2,EVENTOUT", 152 PH14 (io) "PH14/TIM8_CH2N,FMC_D22,DCMI_D4,LCD_G3,EVENTOUT", 153 PH15 (io) "PH15/TIM8_CH3N,FMC_D23,DCMI_D11,LCD_G4,EVENTOUT", 154 PI0 (io) "PI0/TIM5_CH4,SPI2_NSS/I2S2_WS,FMC_D24,DCMI_D13,LCD_G5,EVENTOUT", 155 PI1 (io) "PI1/SPI2_SCK/I2S2_CK,FMC_D25,DCMI_D8,LCD_G6,EVENTOUT", 156 PI2 (io) "PI2/TIM8_CH4,SPI2_MISO,I2S2ext_SD,FMC_D26,DCMI_D9,LCD_G7,EVENTOUT", 157 PI3 (io) "PI3/TIM8_ETR,SPI2_MOSI/I2S2_SD,FMC_D27,DCMI_D10,EVENTOUT", 174 PJ12 (io) "PJ12/LCD_B0,EVENTOUT", 175 PJ13 (io) "PJ13/LCD_B1,EVENTOUT", 176 PJ14 (io) "PJ14/LCD_B2,EVENTOUT", 177 PJ15 (io) "PJ15/LCD_B3,EVENTOUT", 178 PG9 (io) "PG9/USART6_RX,FMC_NE2/FMC_NCE3,EVENTOUT", 179 PG10 (io) "PG10/LCD_G3,FMC_NCE4_1/FMC_NE3,DCMI_D2,LCD_B2,EVENTOUT", 180 PG11 (io) "PG11/ETH_MII_TX_EN/ETH_RMII_TX_EN,FMC_NCE4_2,DCMI_D3,LCD_B3,EVENTOUT", 181 PG12 (io) "PG12/SPI6_MISO,USART6_RTS,LCD_B4,FMC_NE4,LCD_B1,EVENTOUT", 182 PG13 (io) "PG13/SPI6_SCK,USART6_CTS,ETH_MII_TXD0/ETH_RMII_TXD0,FMC_A24,EVENTOUT", 183 PG14 (io) "PG14/SPI6_MOSI,USART6_TX,ETH_MII_TXD1/ETH_RMII_TXD1,FMC_A25,EVENTOUT", 186 PK3 (io) "PK3/LCD_B4,EVENTOUT", 187 PK4 (io) "PK4/LCD_B5,EVENTOUT", 188 PK5 (io) "PK5/LCD_B6,EVENTOUT", 189 PK6 (io) "PK6/LCD_B7,EVENTOUT", 190 PK7 (io) "PK7/LCD_DE,EVENTOUT", 191 PG15 (io) "PG15/USART6_CTS,FMC_SDNCAS,DCMI_D13,EVENTOUT", 197 BOOT0 (in) "BOOT0/VPP", 203 PDR_ON (in), 205 PI4 (io) "PI4/TIM8_BKIN,FMC_NBL2,DCMI_D5,LCD_B4,EVENTOUT", 206 PI5 (io) "PI5/TIM8_CH1,FMC_NBL3,DCMI_VSYNC,LCD_B5,EVENTOUT", 207 PI6 (io) "PI6/TIM8_CH2,FMC_D28,DCMI_D6,LCD_B6,EVENTOUT", 208 PI7 (io) "PI7/TIM8_CH3,FMC_D29,DCMI_D7,LCD_B7,EVENTOUT"
part C pins: 6 VBAT (power), 14 VSS (power), 15 VDD (power), 25 VSS (power), 26 VDD (power), 39 VDD (power), 40 VSSA (power), 41 VREF+ (power), 42 VDDA (power), 51 VSS (power), 52 VDD (power), 59 VDD (power), 60 VSS (power), 72 VSS (power), 73 VDD (power), 82 VSS (power), 83 VDD (power), 93 VSS (power), 94 VDD (power), 103 VDD (power), 114 VSS (power), 115 VDD (power), 124 VDD (power), 125 VSS (power), 136 VSS (power), 137 VDD (power), 149 VSS (power), 150 VDD (power), 158 VDD (power), 170 VSS (power), 171 VDD (power), 184 VSS (power), 185 VDD (power), 202 VSS (power), 204 VDD (power)

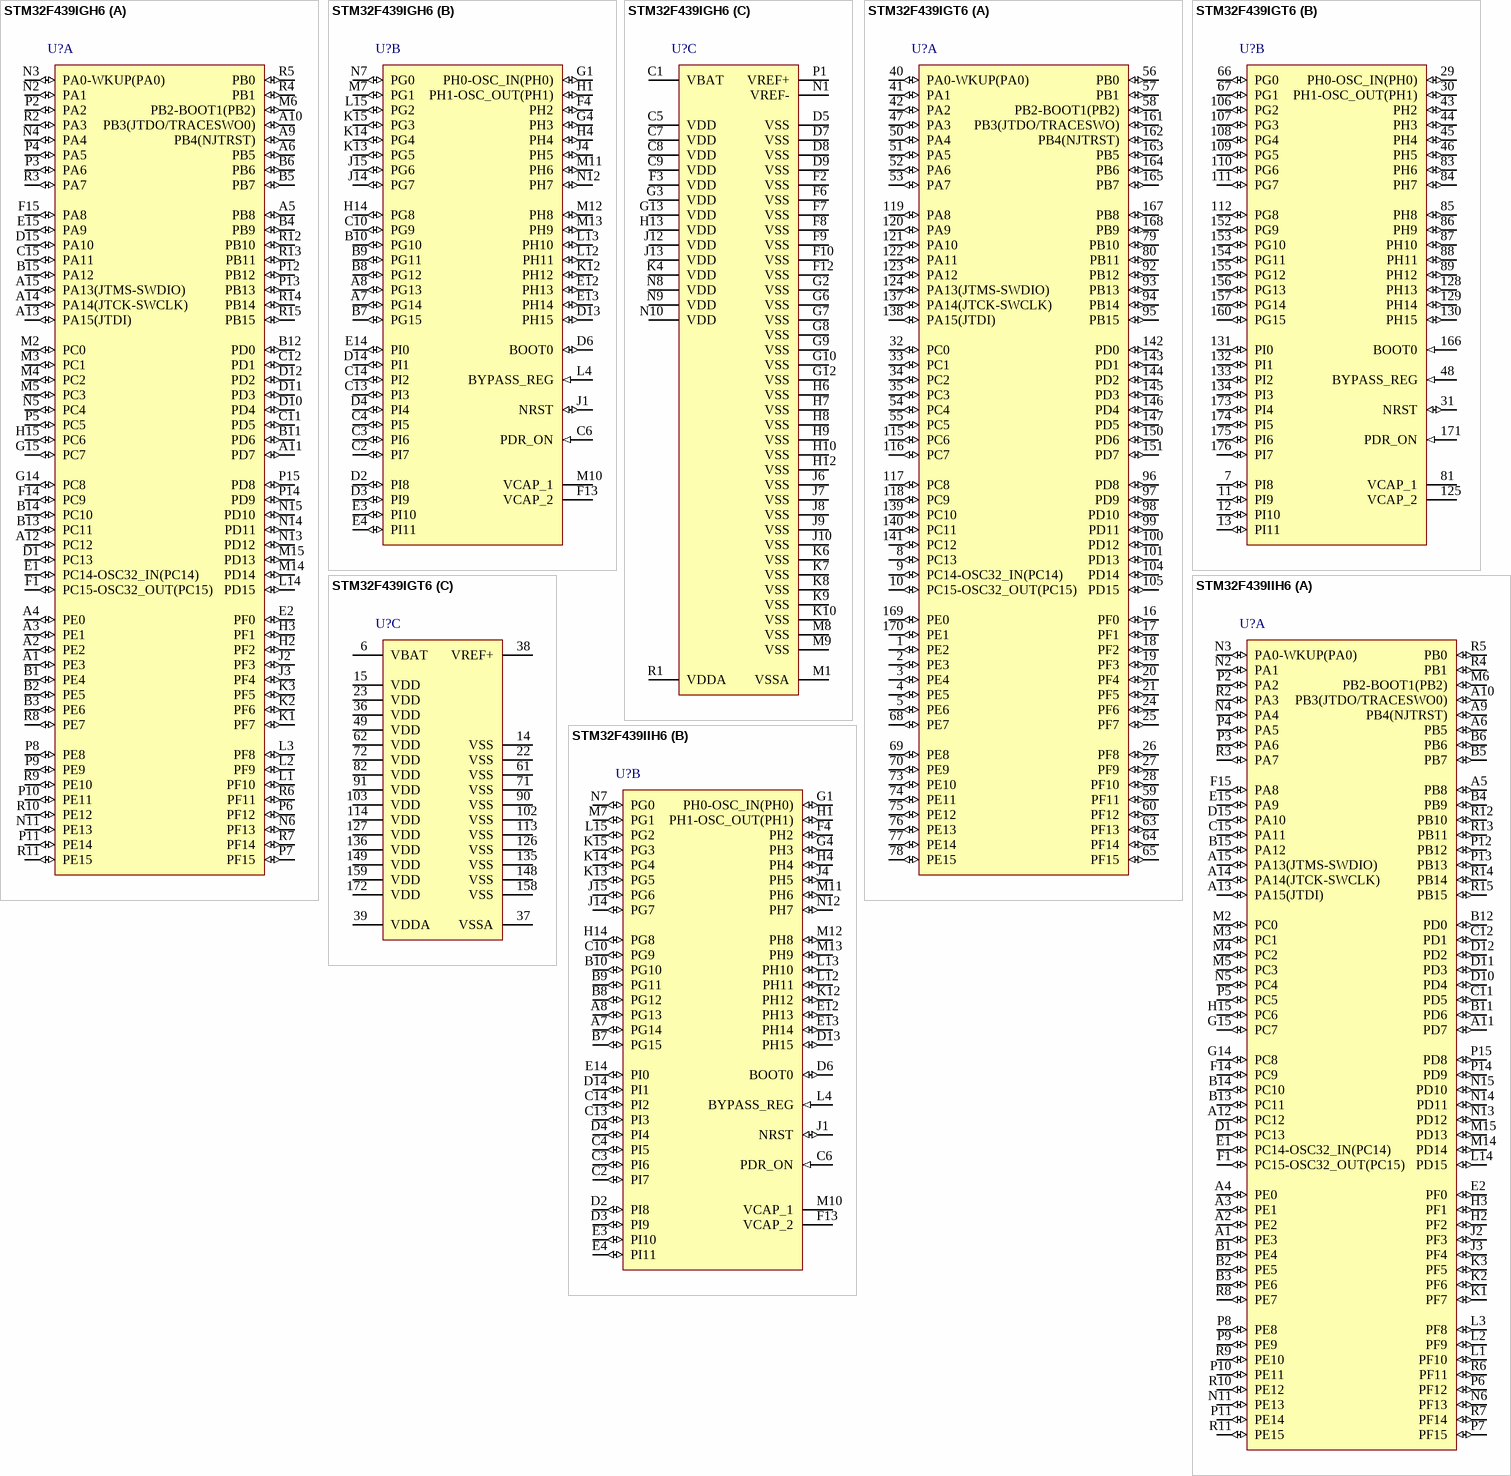
[diagram p33: symbols STM32F439IGH6 to STM32F439IIH6]

## STM32F439IGH6
designator U?
ARM Cortex-M4 32-bit MCU+FPU, 225 DMIPS, 1024 kB Flash, 256 kB Internal RAM, 140 I/Os, 176-pin UFBGA, -40 to 85 degC, Tray
footprint STM-UFBGA176+25 (BGA, 201-Balls, Body 10x10mm, Pitch 0.65mm)
part A pins: A1 PE3 (io) "PE3/TRACED0,SAI1_SD_B,FMC_A19,EVENTOUT", A2 PE2 (io) "PE2/TRACECLK,SPI4_SCK,SAI1_MCLK_A,ETH_MII_TXD3,FMC_A23,EVENTOUT", A3 PE1 (io) "PE1/UART8_TX,FMC_NBL1,DCMI_D3,EVENTOUT", A4 PE0 (io) "PE0/TIM4_ETR,UART8_RX,FMC_NBL0,DCMI_D2,EVENTOUT", A5 PB8 (io) "PB8/TIM4_CH3,TIM10_CH1,I2C1_SCL,CAN1_RX,ETH_MII_TXD3,SDIO_D4,DCMI_D6,LCD_B6,EVENTOUT", A6 PB5 (io) "PB5/TIM3_CH2,I2C1_SMBA,SPI1_MOSI,SPI3_MOSI/I2S3_SD,CAN2_RX,OTG_HS_ULPI_D7,ETH_PPS_OUT,FMC_SDCKE1,DCMI_D10,EVENTOUT", A9 PB4(NJTRST) (io) "PB4(NJTRST)/NJTRST,TIM3_CH1,SPI1_MISO,SPI3_MISO,I2S3ext_SD,EVENTOUT", A10 PB3(JTDO/TRACESWO0) (io) "PB3(JTDO/TRACESWO)/JTDO/TRACESWO,TIM2_CH2,SPI1_SCK,SPI3_SCK/I2S3_CK,EVENTOUT", A11 PD7 (io) "PD7/USART2_CK,FMC_NE1/FMC_NCE2,EVENTOUT", A12 PC12 (io) "PC12/SPI3_MOSI/I2S3_SD,USART3_CK,UART5_TX,SDIO_CK,DCMI_D9,EVENTOUT", A13 PA15(JTDI) (io) "PA15(JTDI)/JTDI,TIM2_CH1/TIM2_ETR,SPI1_NSS,SPI3_NSS/I2S3_WS,EVENTOUT", A14 PA14(JTCK-SWCLK) (io) "PA14(JTCK-SWCLK)/JTCK-SWCLK/EVENTOUT", A15 PA13(JTMS-SWDIO) (io) "PA13(JTMS-SWDIO)/JTMS-SWDIO,EVENTOUT", B1 PE4 (io) "PE4/TRACED1,SPI4_NSS,SAI1_FS_A,FMC_A20,DCMI_D4,LCD_B0,EVENTOUT", B2 PE5 (io) "PE5/TRACED2,TIM9_CH1,SPI4_MISO,SAI1_SCK_A,FMC_A21,DCMI_D6,LCD_G0,EVENTOUT", B3 PE6 (io) "PE6/TRACED3,TIM9_CH2,SPI4_MOSI,SAI1_SD_A,FMC_A22,DCMI_D7,LCD_G1,EVENTOUT", B4 PB9 (io) "PB9/TIM4_CH4,TIM11_CH1,I2C1_SDA,SPI2_NSS/I2S2_WS,CAN1_TX,SDIO_D5,DCMI_D7,LCD_B7,EVENTOUT", B5 PB7 (io) "PB7/TIM4_CH2,I2C1_SDA,USART1_RX,FMC_NL,DCMI_VSYNC,EVENTOUT", B6 PB6 (io) "PB6/TIM4_CH1,I2C1_SCL,USART1_TX,CAN2_TX,FMC_SDNE1,DCMI_D5,EVENTOUT", B11 PD6 (io) "PD6/SPI3_MOSI/I2S3_SD,SAI1_SD_A,USART2_RX,FMC_NWAIT,DCMI_D10,LCD_B2,EVENTOUT", B12 PD0 (io) "PD0/CAN1_RX,FMC_D2,EVENTOUT", B13 PC11 (io) "PC11/I2S3ext_SD,SPI3_MISO,USART3_RX,UART4_RX,SDIO_D3,DCMI_D4,EVENTOUT", B14 PC10 (io) "PC10/SPI3_SCK/I2S3_CK,USART3_TX,UART4_TX,SDIO_D2,DCMI_D8,LCD_R2,EVENTOUT", B15 PA12 (io) "PA12/TIM1_ETR,USART1_RTS,CAN1_TX,LCD_R5,EVENTOUT/OTG_FS_DP", C11 PD5 (io) "PD5/USART2_TX,FMC_NWE,EVENTOUT", C12 PD1 (io) "PD1/CAN1_TX,FMC_D3,EVENTOUT", C15 PA11 (io) "PA11/TIM1_CH4,USART1_CTS,CAN1_RX,LCD_R4,EVENTOUT/OTG_FS_DM", D1 PC13 (io) "PC13/EVENTOUT/TAMP_1", D10 PD4 (io) "PD4/USART2_RTS,FMC_NOE,EVENTOUT", D11 PD3 (io) "PD3/SPI2_SCK/I2S2_CK,USART2_CTS,FMC_CLK,DCMI_D5,LCD_G7,EVENTOUT", D12 PD2 (io) "PD2/TIM3_ETR,UART5_RX,SDIO_CMD,DCMI_D11,EVENTOUT", D15 PA10 (io) "PA10/TIM1_CH3,USART1_RX,OTG_FS_ID,DCMI_D1,EVENTOUT", E1 PC14-OSC32_IN(PC14) (io) "PC14-OSC32_IN(PC14)/EVENTOUT/OSC32_IN", E2 PF0 (io) "PF0/I2C2_SDA,FMC_A0,EVENTOUT", E15 PA9 (io) "PA9/TIM1_CH2,I2C3_SMBA,USART1_TX,DCMI_D0,EVENTOUT/OTG_FS_VBUS", F1 PC15-OSC32_OUT(PC15) (io) "PC15-OSC32_OUT(PC15)/EVENTOUT/OSC32_OUT", F14 PC9 (io) "PC9/MCO2,TIM3_CH4,TIM8_CH4,I2C3_SDA,I2S_CKIN,SDIO_D1,DCMI_D3,EVENTOUT", F15 PA8 (io) "PA8/MCO1,TIM1_CH1,I2C3_SCL,USART1_CK,OTG_FS_SOF,LCD_R6,EVENTOUT", G14 PC8 (io) "PC8/TIM3_CH3,TIM8_CH3,USART6_CK,SDIO_D0,DCMI_D2,EVENTOUT", G15 PC7 (io) "PC7/TIM3_CH2,TIM8_CH2,I2S3_MCK,USART6_RX,SDIO_D7,DCMI_D1,LCD_G6,EVENTOUT", H2 PF2 (io) "PF2/I2C2_SMBA,FMC_A2,EVENTOUT", H3 PF1 (io) "PF1/I2C2_SCL,FMC_A1,EVENTOUT", H15 PC6 (io) "PC6/TIM3_CH1,TIM8_CH1,I2S2_MCK,USART6_TX,SDIO_D6,DCMI_D0,LCD_HSYNC,EVENTOUT", J2 PF3 (io) "PF3/FMC_A3,EVENTOUT/ADC3_IN9", J3 PF4 (io) "PF4/FMC_A4,EVENTOUT/ADC3_IN14", K1 PF7 (io) "PF7/TIM11_CH1,SPI5_SCK,SAI1_MCLK_B,UART7_TX,FMC_NREG,EVENTOUT/ADC3_IN5", K2 PF6 (io) "PF6/TIM10_CH1,SPI5_NSS,SAI1_SD_B,UART7_RX,FMC_NIORD,EVENTOUT/ADC3_IN4", K3 PF5 (io) "PF5/FMC_A5,EVENTOUT/ADC3_IN15", L1 PF10 (io) "PF10/FMC_INTR,DCMI_D11,LCD_DE,EVENTOUT/ADC3_IN8", L2 PF9 (io) "PF9/SPI5_MOSI,SAI1_FS_B,TIM14_CH1,FMC_CD,EVENTOUT/ADC3_IN7", L3 PF8 (io) "PF8/SPI5_MISO,SAI1_SCK_B,TIM13_CH1,FMC_NIOWR,EVENTOUT/ADC3_IN6", L14 PD15 (io) "PD15/TIM4_CH4,FMC_D1,EVENTOUT", M2 PC0 (io) "PC0/OTG_HS_ULPI_STP,FMC_SDNWE,EVENTOUT/ADC123_IN10", M3 PC1 (io) "PC1/ETH_MDC,EVENTOUT/ADC123_IN11", M4 PC2 (io) "PC2/SPI2_MISO,I2S2ext_SD,OTG_HS_ULPI_DIR,ETH_MII_TXD2,FMC_SDNE0,EVENTOUT/ADC123_IN12", M5 PC3 (io) "PC3/SPI2_MOSI/I2S2_SD,OTG_HS_ULPI_NXT,ETH_MII_TX_CLK,FMC_SDCKE0,EVENTOUT/ADC123_IN13", M6 PB2-BOOT1(PB2) (io) "PB2-BOOT1(PB2)/EVENTOUT", M14 PD14 (io) "PD14/TIM4_CH3,FMC_D0,EVENTOUT", M15 PD13 (io) "PD13/TIM4_CH2,FMC_A18,EVENTOUT", N2 PA1 (io) "PA1/TIM2_CH2,TIM5_CH2,USART2_RTS,UART4_RX,ETH_MII_RX_CLK/ETH_RMII_REF_CLK,EVENTOUT/ADC123_IN1", N3 PA0-WKUP(PA0) (io) "PA0-WKUP(PA0)/TIM2_CH1/TIM2_ETR,TIM5_CH1,TIM8_ETR,USART2_CTS,UART4_TX,ETH_MII_CRS,EVENTOUT/ADC123_IN0/WKUP", N4 PA4 (io) "PA4/SPI1_NSS,SPI3_NSS/I2S3_WS,USART2_CK,OTG_HS_SOF,DCMI_HSYNC,LCD_VSYNC,EVENTOUT/ADC12_IN4/DAC_OUT1", N5 PC4 (io) "PC4/ETH_MII_RXD0/ETH_RMII_RXD0,EVENTOUT/ADC12_IN14", N6 PF13 (io) "PF13/FMC_A7,EVENTOUT", N11 PE13 (io) "PE13/TIM1_CH3,SPI4_MISO,FMC_D10,LCD_DE,EVENTOUT", N13 PD12 (io) "PD12/TIM4_CH1,USART3_RTS,FMC_A17,EVENTOUT", N14 PD11 (io) "PD11/USART3_CTS,FMC_A16,EVENTOUT", N15 PD10 (io) "PD10/USART3_CK,FMC_D15,LCD_B3,EVENTOUT", P2 PA2 (io) "PA2/TIM2_CH3,TIM5_CH3,TIM9_CH1,USART2_TX,ETH_MDIO,EVENTOUT/ADC123_IN2", P3 PA6 (io) "PA6/TIM1_BKIN,TIM3_CH1,TIM8_BKIN,SPI1_MISO,TIM13_CH1,DCMI_PIXCLK,LCD_G2,EVENTOUT/ADC12_IN6", P4 PA5 (io) "PA5/TIM2_CH1/TIM2_ETR,TIM8_CH1N,SPI1_SCK,OTG_HS_ULPI_CK,EVENTOUT/ADC12_IN5/DAC_OUT2", P5 PC5 (io) "PC5/ETH_MII_RXD1/ETH_RMII_RXD1,EVENTOUT/ADC12_IN15", P6 PF12 (io) "PF12/FMC_A6,EVENTOUT", P7 PF15 (io) "PF15/FMC_A9,EVENTOUT", P8 PE8 (io) "PE8/TIM1_CH1N,UART7_TX,FMC_D5,EVENTOUT", P9 PE9 (io) "PE9/TIM1_CH1,FMC_D6,EVENTOUT", P10 PE11 (io) "PE11/TIM1_CH2,SPI4_NSS,FMC_D8,LCD_G3,EVENTOUT", P11 PE14 (io) "PE14/TIM1_CH4,SPI4_MOSI,FMC_D11,LCD_CLK,EVENTOUT", P12 PB12 (io) "PB12/TIM1_BKIN,I2C2_SMBA,SPI2_NSS/I2S2_WS,USART3_CK,CAN2_RX,OTG_HS_ULPI_D5,ETH_MII_TXD0/ETH_RMII_TXD0,OTG_HS_ID,EVENTOUT", P13 PB13 (io) "PB13/TIM1_CH1N,SPI2_SCK/I2S2_CK,USART3_CTS,CAN2_TX,OTG_HS_ULPI_D6,ETH_MII_TXD1/ETH_RMII_TXD1,EVENTOUT/OTG_HS_VBUS", P14 PD9 (io) "PD9/USART3_RX,FMC_D14,EVENTOUT", P15 PD8 (io) "PD8/USART3_TX,FMC_D13,EVENTOUT", R2 PA3 (io) "PA3/TIM2_CH4,TIM5_CH4,TIM9_CH2,USART2_RX,OTG_HS_ULPI_D0,ETH_MII_COL,LCD_B5,EVENTOUT/ADC123_IN3", R3 PA7 (io) "PA7/TIM1_CH1N,TIM3_CH2,TIM8_CH1N,SPI1_MOSI,TIM14_CH1,ETH_MII_RX_DV/ETH_RMII_CRS_DV,EVENTOUT/ADC12_IN7", R4 PB1 (io) "PB1/TIM1_CH3N,TIM3_CH4,TIM8_CH3N,LCD_R6,OTG_HS_ULPI_D2,ETH_MII_RXD3,EVENTOUT/ADC12_IN9", R5 PB0 (io) "PB0/TIM1_CH2N,TIM3_CH3,TIM8_CH2N,LCD_R3,OTG_HS_ULPI_D1,ETH_MII_RXD2,EVENTOUT/ADC12_IN8", R6 PF11 (io) "PF11/SPI5_MOSI,FMC_SDNRAS,DCMI_D12,EVENTOUT", R7 PF14 (io) "PF14/FMC_A8,EVENTOUT", R8 PE7 (io) "PE7/TIM1_ETR,UART7_RX,FMC_D4,EVENTOUT", R9 PE10 (io) "PE10/TIM1_CH2N,FMC_D7,EVENTOUT", R10 PE12 (io) "PE12/TIM1_CH3N,SPI4_SCK,FMC_D9,LCD_B4,EVENTOUT", R11 PE15 (io) "PE15/TIM1_BKIN,FMC_D12,LCD_R7,EVENTOUT", R12 PB10 (io) "PB10/TIM2_CH3,I2C2_SCL,SPI2_SCK/I2S2_CK,USART3_TX,OTG_HS_ULPI_D3,ETH_MII_RX_ER,LCD_G4,EVENTOUT", R13 PB11 (io) "PB11/TIM2_CH4,I2C2_SDA,USART3_RX,OTG_HS_ULPI_D4,ETH_MII_TX_EN/ETH_RMII_TX_EN,LCD_G5,EVENTOUT", R14 PB14 (io) "PB14/TIM1_CH2N,TIM8_CH2N,SPI2_MISO,I2S2ext_SD,USART3_RTS,TIM12_CH1,EVENTOUT/OTG_HS_DM", R15 PB15 (io) "PB15/RTC_REFIN,TIM1_CH3N,TIM8_CH3N,SPI2_MOSI/I2S2_SD,TIM12_CH2,EVENTOUT/OTG_HS_DP"
part B pins: A7 PG14 (io) "PG14/SPI6_MOSI,USART6_TX,ETH_MII_TXD1/ETH_RMII_TXD1,FMC_A25,EVENTOUT", A8 PG13 (io) "PG13/SPI6_SCK,USART6_CTS,ETH_MII_TXD0/ETH_RMII_TXD0,FMC_A24,EVENTOUT", B7 PG15 (io) "PG15/USART6_CTS,FMC_SDNCAS,DCMI_D13,EVENTOUT", B8 PG12 (io) "PG12/SPI6_MISO,USART6_RTS,LCD_B4,FMC_NE4,LCD_B1,EVENTOUT", B9 PG11 (io) "PG11/ETH_MII_TX_EN/ETH_RMII_TX_EN,FMC_NCE4_2,DCMI_D3,LCD_B3,EVENTOUT", B10 PG10 (io) "PG10/LCD_G3,FMC_NCE4_1/FMC_NE3,DCMI_D2,LCD_B2,EVENTOUT", C2 PI7 (io) "PI7/TIM8_CH3,FMC_D29,DCMI_D7,LCD_B7,EVENTOUT", C3 PI6 (io) "PI6/TIM8_CH2,FMC_D28,DCMI_D6,LCD_B6,EVENTOUT", C4 PI5 (io) "PI5/TIM8_CH1,FMC_NBL3,DCMI_VSYNC,LCD_B5,EVENTOUT", C6 PDR_ON (in), C10 PG9 (io) "PG9/USART6_RX,FMC_NE2/FMC_NCE3,EVENTOUT", C13 PI3 (io) "PI3/TIM8_ETR,SPI2_MOSI/I2S2_SD,FMC_D27,DCMI_D10,EVENTOUT", C14 PI2 (io) "PI2/TIM8_CH4,SPI2_MISO,I2S2ext_SD,FMC_D26,DCMI_D9,LCD_G7,EVENTOUT", D2 PI8 (io) "PI8/EVENTOUT/TAMP_2", D3 PI9 (io) "PI9/CAN1_RX,FMC_D30,LCD_VSYNC,EVENTOUT", D4 PI4 (io) "PI4/TIM8_BKIN,FMC_NBL2,DCMI_D5,LCD_B4,EVENTOUT", D6 BOOT0 (io) "BOOT0/VPP", D13 PH15 (io) "PH15/TIM8_CH3N,FMC_D23,DCMI_D11,LCD_G4,EVENTOUT", D14 PI1 (io) "PI1/SPI2_SCK/I2S2_CK,FMC_D25,DCMI_D8,LCD_G6,EVENTOUT", E3 PI10 (io) "PI10/ETH_MII_RX_ER,FMC_D31,LCD_HSYNC,EVENTOUT", E4 PI11 (io) "PI11/OTG_HS_ULPI_DIR,EVENTOUT", E12 PH13 (io) "PH13/TIM8_CH1N,CAN1_TX,FMC_D21,LCD_G2,EVENTOUT", E13 PH14 (io) "PH14/TIM8_CH2N,FMC_D22,DCMI_D4,LCD_G3,EVENTOUT", E14 PI0 (io) "PI0/TIM5_CH4,SPI2_NSS/I2S2_WS,FMC_D24,DCMI_D13,LCD_G5,EVENTOUT", F4 PH2 (io) "PH2/ETH_MII_CRS,FMC_SDCKE0,LCD_R0,EVENTOUT", F13 VCAP_2 (power), G1 PH0-OSC_IN(PH0) (io) "PH0-OSC_IN(PH0)/EVENTOUT/OSC_IN", G4 PH3 (io) "PH3/ETH_MII_COL,FMC_SDNE0,LCD_R1,EVENTOUT", H1 PH1-OSC_OUT(PH1) (io) "PH1-OSC_OUT(PH1)/EVENTOUT/OSC_OUT", H4 PH4 (io) "PH4/I2C2_SCL,OTG_HS_ULPI_NXT,EVENTOUT", H14 PG8 (io) "PG8/SPI6_NSS,USART6_RTS,ETH_PPS_OUT,FMC_SDCLK,EVENTOUT", J1 NRST (io), J4 PH5 (io) "PH5/I2C2_SDA,SPI5_NSS,FMC_SDNWE,EVENTOUT", J14 PG7 (io) "PG7/USART6_CK,FMC_INT3,DCMI_D13,LCD_CLK,EVENTOUT", J15 PG6 (io) "PG6/FMC_INT2,DCMI_D12,LCD_R7,EVENTOUT", K12 PH12 (io) "PH12/TIM5_CH3,FMC_D20,DCMI_D3,LCD_R6,EVENTOUT", K13 PG5 (io) "PG5/FMC_A15/FMC_BA1,EVENTOUT", K14 PG4 (io) "PG4/FMC_A14/FMC_BA0,EVENTOUT", K15 PG3 (io) "PG3/FMC_A13,EVENTOUT", L4 BYPASS_REG (in), L12 PH11 (io) "PH11/TIM5_CH2,FMC_D19,DCMI_D2,LCD_R5,EVENTOUT", L13 PH10 (io) "PH10/TIM5_CH1,FMC_D18,DCMI_D1,LCD_R4,EVENTOUT", L15 PG2 (io) "PG2/FMC_A12,EVENTOUT", M7 PG1 (io) "PG1/FMC_A11,EVENTOUT", M10 VCAP_1 (power), M11 PH6 (io) "PH6/I2C2_SMBA,SPI5_SCK,TIM12_CH1,ETH_MII_RXD2,FMC_SDNE1,DCMI_D8,EVENTOUT", M12 PH8 (io) "PH8/I2C3_SDA,FMC_D16,DCMI_HSYNC,LCD_R2,EVENTOUT", M13 PH9 (io) "PH9/I2C3_SMBA,TIM12_CH2,FMC_D17,DCMI_D0,LCD_R3,EVENTOUT", N7 PG0 (io) "PG0/FMC_A10,EVENTOUT", N12 PH7 (io) "PH7/I2C3_SCL,SPI5_MISO,ETH_MII_RXD3,FMC_SDCKE1,DCMI_D9,EVENTOUT"
part C pins: C1 VBAT (power), C5 VDD (power), C7 VDD (power), C8 VDD (power), C9 VDD (power), D5 VSS (power), D7 VSS (power), D8 VSS (power), D9 VSS (power), F2 VSS (power), F3 VDD (power), F6 VSS (power), F7 VSS (power), F8 VSS (power), F9 VSS (power), F10 VSS (power), F12 VSS (power), G2 VSS (power), G3 VDD (power), G6 VSS (power), G7 VSS (power), G8 VSS (power), G9 VSS (power), G10 VSS (power), G12 VSS (power), G13 VDD (power), H6 VSS (power), H7 VSS (power), H8 VSS (power), H9 VSS (power), H10 VSS (power), H12 VSS (power), H13 VDD (power), J6 VSS (power), J7 VSS (power), J8 VSS (power), J9 VSS (power), J10 VSS (power), J12 VDD (power), J13 VDD (power), K4 VDD (power), K6 VSS (power), K7 VSS (power), K8 VSS (power), K9 VSS (power), K10 VSS (power), M1 VSSA (power), M8 VSS (power), M9 VSS (power), N1 VREF- (power), N8 VDD (power), N9 VDD (power), N10 VDD (power), P1 VREF+ (power), R1 VDDA (power)

## STM32F439IGT6
designator U?
ARM Cortex-M4 32-bit MCU+FPU, 225 DMIPS, 1024 kB Flash, 256 kB Internal RAM, 140 I/Os, 176-pin LQFP, -40 to 85 degC, Tray
footprint STM-LQFP176_N (Thin QFP, 176-Leads, Body 24x24mm, Pitch 0.5mm, IPC Medium Density)
footprint STM-LQFP176_L (Thin QFP, 176-Leads, Body 24x24mm, Pitch 0.5mm, IPC High Density)
footprint STM-LQFP176_M (Thin QFP, 176-Leads, Body 24x24mm, Pitch 0.5mm, IPC Low Density)
part A pins: 1 PE2 (io) "PE2/TRACECLK,SPI4_SCK,SAI1_MCLK_A,ETH_MII_TXD3,FMC_A23,EVENTOUT", 2 PE3 (io) "PE3/TRACED0,SAI1_SD_B,FMC_A19,EVENTOUT", 3 PE4 (io) "PE4/TRACED1,SPI4_NSS,SAI1_FS_A,FMC_A20,DCMI_D4,LCD_B0,EVENTOUT", 4 PE5 (io) "PE5/TRACED2,TIM9_CH1,SPI4_MISO,SAI1_SCK_A,FMC_A21,DCMI_D6,LCD_G0,EVENTOUT", 5 PE6 (io) "PE6/TRACED3,TIM9_CH2,SPI4_MOSI,SAI1_SD_A,FMC_A22,DCMI_D7,LCD_G1,EVENTOUT", 8 PC13 (io) "PC13/EVENTOUT/TAMP_1", 9 PC14-OSC32_IN(PC14) (io) "PC14-OSC32_IN(PC14)/EVENTOUT/OSC32_IN", 10 PC15-OSC32_OUT(PC15) (io) "PC15-OSC32_OUT(PC15)/EVENTOUT/OSC32_OUT", 16 PF0 (io) "PF0/I2C2_SDA,FMC_A0,EVENTOUT", 17 PF1 (io) "PF1/I2C2_SCL,FMC_A1,EVENTOUT", 18 PF2 (io) "PF2/I2C2_SMBA,FMC_A2,EVENTOUT", 19 PF3 (io) "PF3/FMC_A3,EVENTOUT/ADC3_IN9", 20 PF4 (io) "PF4/FMC_A4,EVENTOUT/ADC3_IN14", 21 PF5 (io) "PF5/FMC_A5,EVENTOUT/ADC3_IN15", 24 PF6 (io) "PF6/TIM10_CH1,SPI5_NSS,SAI1_SD_B,UART7_RX,FMC_NIORD,EVENTOUT/ADC3_IN4", 25 PF7 (io) "PF7/TIM11_CH1,SPI5_SCK,SAI1_MCLK_B,UART7_TX,FMC_NREG,EVENTOUT/ADC3_IN5", 26 PF8 (io) "PF8/SPI5_MISO,SAI1_SCK_B,TIM13_CH1,FMC_NIOWR,EVENTOUT/ADC3_IN6", 27 PF9 (io) "PF9/SPI5_MOSI,SAI1_FS_B,TIM14_CH1,FMC_CD,EVENTOUT/ADC3_IN7", 28 PF10 (io) "PF10/FMC_INTR,DCMI_D11,LCD_DE,EVENTOUT/ADC3_IN8", 32 PC0 (io) "PC0/OTG_HS_ULPI_STP,FMC_SDNWE,EVENTOUT/ADC123_IN10", 33 PC1 (io) "PC1/ETH_MDC,EVENTOUT/ADC123_IN11", 34 PC2 (io) "PC2/SPI2_MISO,I2S2ext_SD,OTG_HS_ULPI_DIR,ETH_MII_TXD2,FMC_SDNE0,EVENTOUT/ADC123_IN12", 35 PC3 (io) "PC3/SPI2_MOSI/I2S2_SD,OTG_HS_ULPI_NXT,ETH_MII_TX_CLK,FMC_SDCKE0,EVENTOUT/ADC123_IN13", 40 PA0-WKUP(PA0) (io) "PA0-WKUP(PA0)/TIM2_CH1/TIM2_ETR,TIM5_CH1,TIM8_ETR,USART2_CTS,UART4_TX,ETH_MII_CRS,EVENTOUT/ADC123_IN0/WKUP", 41 PA1 (io) "PA1/TIM2_CH2,TIM5_CH2,USART2_RTS,UART4_RX,ETH_MII_RX_CLK/ETH_RMII_REF_CLK,EVENTOUT/ADC123_IN1", 42 PA2 (io) "PA2/TIM2_CH3,TIM5_CH3,TIM9_CH1,USART2_TX,ETH_MDIO,EVENTOUT/ADC123_IN2", 47 PA3 (io) "PA3/TIM2_CH4,TIM5_CH4,TIM9_CH2,USART2_RX,OTG_HS_ULPI_D0,ETH_MII_COL,LCD_B5,EVENTOUT/ADC123_IN3", 50 PA4 (io) "PA4/SPI1_NSS,SPI3_NSS/I2S3_WS,USART2_CK,OTG_HS_SOF,DCMI_HSYNC,LCD_VSYNC,EVENTOUT/ADC12_IN4/DAC_OUT1", 51 PA5 (io) "PA5/TIM2_CH1/TIM2_ETR,TIM8_CH1N,SPI1_SCK,OTG_HS_ULPI_CK,EVENTOUT/ADC12_IN5/DAC_OUT2", 52 PA6 (io) "PA6/TIM1_BKIN,TIM3_CH1,TIM8_BKIN,SPI1_MISO,TIM13_CH1,DCMI_PIXCLK,LCD_G2,EVENTOUT/ADC12_IN6", 53 PA7 (io) "PA7/TIM1_CH1N,TIM3_CH2,TIM8_CH1N,SPI1_MOSI,TIM14_CH1,ETH_MII_RX_DV/ETH_RMII_CRS_DV,EVENTOUT/ADC12_IN7", 54 PC4 (io) "PC4/ETH_MII_RXD0/ETH_RMII_RXD0,EVENTOUT/ADC12_IN14", 55 PC5 (io) "PC5/ETH_MII_RXD1/ETH_RMII_RXD1,EVENTOUT/ADC12_IN15", 56 PB0 (io) "PB0/TIM1_CH2N,TIM3_CH3,TIM8_CH2N,LCD_R3,OTG_HS_ULPI_D1,ETH_MII_RXD2,EVENTOUT/ADC12_IN8", 57 PB1 (io) "PB1/TIM1_CH3N,TIM3_CH4,TIM8_CH3N,LCD_R6,OTG_HS_ULPI_D2,ETH_MII_RXD3,EVENTOUT/ADC12_IN9", 58 PB2-BOOT1(PB2) (io) "PB2-BOOT1(PB2)/EVENTOUT", 59 PF11 (io) "PF11/SPI5_MOSI,FMC_SDNRAS,DCMI_D12,EVENTOUT", 60 PF12 (io) "PF12/FMC_A6,EVENTOUT", 63 PF13 (io) "PF13/FMC_A7,EVENTOUT", 64 PF14 (io) "PF14/FMC_A8,EVENTOUT", 65 PF15 (io) "PF15/FMC_A9,EVENTOUT", 68 PE7 (io) "PE7/TIM1_ETR,UART7_RX,FMC_D4,EVENTOUT", 69 PE8 (io) "PE8/TIM1_CH1N,UART7_TX,FMC_D5,EVENTOUT", 70 PE9 (io) "PE9/TIM1_CH1,FMC_D6,EVENTOUT", 73 PE10 (io) "PE10/TIM1_CH2N,FMC_D7,EVENTOUT", 74 PE11 (io) "PE11/TIM1_CH2,SPI4_NSS,FMC_D8,LCD_G3,EVENTOUT", 75 PE12 (io) "PE12/TIM1_CH3N,SPI4_SCK,FMC_D9,LCD_B4,EVENTOUT", 76 PE13 (io) "PE13/TIM1_CH3,SPI4_MISO,FMC_D10,LCD_DE,EVENTOUT", 77 PE14 (io) "PE14/TIM1_CH4,SPI4_MOSI,FMC_D11,LCD_CLK,EVENTOUT", 78 PE15 (io) "PE15/TIM1_BKIN,FMC_D12,LCD_R7,EVENTOUT", 79 PB10 (io) "PB10/TIM2_CH3,I2C2_SCL,SPI2_SCK/I2S2_CK,USART3_TX,OTG_HS_ULPI_D3,ETH_MII_RX_ER,LCD_G4,EVENTOUT", 80 PB11 (io) "PB11/TIM2_CH4,I2C2_SDA,USART3_RX,OTG_HS_ULPI_D4,ETH_MII_TX_EN/ETH_RMII_TX_EN,LCD_G5,EVENTOUT", 92 PB12 (io) "PB12/TIM1_BKIN,I2C2_SMBA,SPI2_NSS/I2S2_WS,USART3_CK,CAN2_RX,OTG_HS_ULPI_D5,ETH_MII_TXD0/ETH_RMII_TXD0,OTG_HS_ID,EVENTOUT", 93 PB13 (io) "PB13/TIM1_CH1N,SPI2_SCK/I2S2_CK,USART3_CTS,CAN2_TX,OTG_HS_ULPI_D6,ETH_MII_TXD1/ETH_RMII_TXD1,EVENTOUT/OTG_HS_VBUS", 94 PB14 (io) "PB14/TIM1_CH2N,TIM8_CH2N,SPI2_MISO,I2S2ext_SD,USART3_RTS,TIM12_CH1,EVENTOUT/OTG_HS_DM", 95 PB15 (io) "PB15/RTC_REFIN,TIM1_CH3N,TIM8_CH3N,SPI2_MOSI/I2S2_SD,TIM12_CH2,EVENTOUT/OTG_HS_DP", 96 PD8 (io) "PD8/USART3_TX,FMC_D13,EVENTOUT", 97 PD9 (io) "PD9/USART3_RX,FMC_D14,EVENTOUT", 98 PD10 (io) "PD10/USART3_CK,FMC_D15,LCD_B3,EVENTOUT", 99 PD11 (io) "PD11/USART3_CTS,FMC_A16,EVENTOUT", 100 PD12 (io) "PD12/TIM4_CH1,USART3_RTS,FMC_A17,EVENTOUT", 101 PD13 (io) "PD13/TIM4_CH2,FMC_A18,EVENTOUT", 104 PD14 (io) "PD14/TIM4_CH3,FMC_D0,EVENTOUT", 105 PD15 (io) "PD15/TIM4_CH4,FMC_D1,EVENTOUT", 115 PC6 (io) "PC6/TIM3_CH1,TIM8_CH1,I2S2_MCK,USART6_TX,SDIO_D6,DCMI_D0,LCD_HSYNC,EVENTOUT", 116 PC7 (io) "PC7/TIM3_CH2,TIM8_CH2,I2S3_MCK,USART6_RX,SDIO_D7,DCMI_D1,LCD_G6,EVENTOUT", 117 PC8 (io) "PC8/TIM3_CH3,TIM8_CH3,USART6_CK,SDIO_D0,DCMI_D2,EVENTOUT", 118 PC9 (io) "PC9/MCO2,TIM3_CH4,TIM8_CH4,I2C3_SDA,I2S_CKIN,SDIO_D1,DCMI_D3,EVENTOUT", 119 PA8 (io) "PA8/MCO1,TIM1_CH1,I2C3_SCL,USART1_CK,OTG_FS_SOF,LCD_R6,EVENTOUT", 120 PA9 (io) "PA9/TIM1_CH2,I2C3_SMBA,USART1_TX,DCMI_D0,EVENTOUT/OTG_FS_VBUS", 121 PA10 (io) "PA10/TIM1_CH3,USART1_RX,OTG_FS_ID,DCMI_D1,EVENTOUT", 122 PA11 (io) "PA11/TIM1_CH4,USART1_CTS,CAN1_RX,LCD_R4,EVENTOUT/OTG_FS_DM", 123 PA12 (io) "PA12/TIM1_ETR,USART1_RTS,CAN1_TX,LCD_R5,EVENTOUT/OTG_FS_DP", 124 PA13(JTMS-SWDIO) (io) "PA13(JTMS-SWDIO)/JTMS-SWDIO,EVENTOUT", 137 PA14(JTCK-SWCLK) (io) "PA14(JTCK-SWCLK)/JTCK-SWCLK/EVENTOUT", 138 PA15(JTDI) (io) "PA15(JTDI)/JTDI,TIM2_CH1/TIM2_ETR,SPI1_NSS,SPI3_NSS/I2S3_WS,EVENTOUT", 139 PC10 (io) "PC10/SPI3_SCK/I2S3_CK,USART3_TX,UART4_TX,SDIO_D2,DCMI_D8,LCD_R2,EVENTOUT", 140 PC11 (io) "PC11/I2S3ext_SD,SPI3_MISO,USART3_RX,UART4_RX,SDIO_D3,DCMI_D4,EVENTOUT", 141 PC12 (io) "PC12/SPI3_MOSI/I2S3_SD,USART3_CK,UART5_TX,SDIO_CK,DCMI_D9,EVENTOUT", 142 PD0 (io) "PD0/CAN1_RX,FMC_D2,EVENTOUT", 143 PD1 (io) "PD1/CAN1_TX,FMC_D3,EVENTOUT", 144 PD2 (io) "PD2/TIM3_ETR,UART5_RX,SDIO_CMD,DCMI_D11,EVENTOUT", 145 PD3 (io) "PD3/SPI2_SCK/I2S2_CK,USART2_CTS,FMC_CLK,DCMI_D5,LCD_G7,EVENTOUT", 146 PD4 (io) "PD4/USART2_RTS,FMC_NOE,EVENTOUT", 147 PD5 (io) "PD5/USART2_TX,FMC_NWE,EVENTOUT", 150 PD6 (io) "PD6/SPI3_MOSI/I2S3_SD,SAI1_SD_A,USART2_RX,FMC_NWAIT,DCMI_D10,LCD_B2,EVENTOUT", 151 PD7 (io) "PD7/USART2_CK,FMC_NE1/FMC_NCE2,EVENTOUT", 161 PB3(JTDO/TRACESWO) (io) "PB3(JTDO/TRACESWO)/JTDO/TRACESWO,TIM2_CH2,SPI1_SCK,SPI3_SCK/I2S3_CK,EVENTOUT", 162 PB4(NJTRST) (io) "PB4(NJTRST)/NJTRST,TIM3_CH1,SPI1_MISO,SPI3_MISO,I2S3ext_SD,EVENTOUT", 163 PB5 (io) "PB5/TIM3_CH2,I2C1_SMBA,SPI1_MOSI,SPI3_MOSI/I2S3_SD,CAN2_RX,OTG_HS_ULPI_D7,ETH_PPS_OUT,FMC_SDCKE1,DCMI_D10,EVENTOUT", 164 PB6 (io) "PB6/TIM4_CH1,I2C1_SCL,USART1_TX,CAN2_TX,FMC_SDNE1,DCMI_D5,EVENTOUT", 165 PB7 (io) "PB7/TIM4_CH2,I2C1_SDA,USART1_RX,FMC_NL,DCMI_VSYNC,EVENTOUT", 167 PB8 (io) "PB8/TIM4_CH3,TIM10_CH1,I2C1_SCL,CAN1_RX,ETH_MII_TXD3,SDIO_D4,DCMI_D6,LCD_B6,EVENTOUT", 168 PB9 (io) "PB9/TIM4_CH4,TIM11_CH1,I2C1_SDA,SPI2_NSS/I2S2_WS,CAN1_TX,SDIO_D5,DCMI_D7,LCD_B7,EVENTOUT", 169 PE0 (io) "PE0/TIM4_ETR,UART8_RX,FMC_NBL0,DCMI_D2,EVENTOUT", 170 PE1 (io) "PE1/UART8_TX,FMC_NBL1,DCMI_D3,EVENTOUT"
part B pins: 7 PI8 (io) "PI8/EVENTOUT/TAMP_2", 11 PI9 (io) "PI9/CAN1_RX,FMC_D30,LCD_VSYNC,EVENTOUT", 12 PI10 (io) "PI10/ETH_MII_RX_ER,FMC_D31,LCD_HSYNC,EVENTOUT", 13 PI11 (io) "PI11/OTG_HS_ULPI_DIR,EVENTOUT", 29 PH0-OSC_IN(PH0) (io) "PH0-OSC_IN(PH0)/EVENTOUT/OSC_IN", 30 PH1-OSC_OUT(PH1) (io) "PH1-OSC_OUT(PH1)/EVENTOUT/OSC_OUT", 31 NRST (io), 43 PH2 (io) "PH2/ETH_MII_CRS,FMC_SDCKE0,LCD_R0,EVENTOUT", 44 PH3 (io) "PH3/ETH_MII_COL,FMC_SDNE0,LCD_R1,EVENTOUT", 45 PH4 (io) "PH4/I2C2_SCL,OTG_HS_ULPI_NXT,EVENTOUT", 46 PH5 (io) "PH5/I2C2_SDA,SPI5_NSS,FMC_SDNWE,EVENTOUT", 48 BYPASS_REG (in), 66 PG0 (io) "PG0/FMC_A10,EVENTOUT", 67 PG1 (io) "PG1/FMC_A11,EVENTOUT", 81 VCAP_1 (power), 83 PH6 (io) "PH6/I2C2_SMBA,SPI5_SCK,TIM12_CH1,ETH_MII_RXD2,FMC_SDNE1,DCMI_D8,EVENTOUT", 84 PH7 (io) "PH7/I2C3_SCL,SPI5_MISO,ETH_MII_RXD3,FMC_SDCKE1,DCMI_D9,EVENTOUT", 85 PH8 (io) "PH8/I2C3_SDA,FMC_D16,DCMI_HSYNC,LCD_R2,EVENTOUT", 86 PH9 (io) "PH9/I2C3_SMBA,TIM12_CH2,FMC_D17,DCMI_D0,LCD_R3,EVENTOUT", 87 PH10 (io) "PH10/TIM5_CH1,FMC_D18,DCMI_D1,LCD_R4,EVENTOUT", 88 PH11 (io) "PH11/TIM5_CH2,FMC_D19,DCMI_D2,LCD_R5,EVENTOUT", 89 PH12 (io) "PH12/TIM5_CH3,FMC_D20,DCMI_D3,LCD_R6,EVENTOUT", 106 PG2 (io) "PG2/FMC_A12,EVENTOUT", 107 PG3 (io) "PG3/FMC_A13,EVENTOUT", 108 PG4 (io) "PG4/FMC_A14/FMC_BA0,EVENTOUT", 109 PG5 (io) "PG5/FMC_A15/FMC_BA1,EVENTOUT", 110 PG6 (io) "PG6/FMC_INT2,DCMI_D12,LCD_R7,EVENTOUT", 111 PG7 (io) "PG7/USART6_CK,FMC_INT3,DCMI_D13,LCD_CLK,EVENTOUT", 112 PG8 (io) "PG8/SPI6_NSS,USART6_RTS,ETH_PPS_OUT,FMC_SDCLK,EVENTOUT", 125 VCAP_2 (power), 128 PH13 (io) "PH13/TIM8_CH1N,CAN1_TX,FMC_D21,LCD_G2,EVENTOUT", 129 PH14 (io) "PH14/TIM8_CH2N,FMC_D22,DCMI_D4,LCD_G3,EVENTOUT", 130 PH15 (io) "PH15/TIM8_CH3N,FMC_D23,DCMI_D11,LCD_G4,EVENTOUT", 131 PI0 (io) "PI0/TIM5_CH4,SPI2_NSS/I2S2_WS,FMC_D24,DCMI_D13,LCD_G5,EVENTOUT", 132 PI1 (io) "PI1/SPI2_SCK/I2S2_CK,FMC_D25,DCMI_D8,LCD_G6,EVENTOUT", 133 PI2 (io) "PI2/TIM8_CH4,SPI2_MISO,I2S2ext_SD,FMC_D26,DCMI_D9,LCD_G7,EVENTOUT", 134 PI3 (io) "PI3/TIM8_ETR,SPI2_MOSI/I2S2_SD,FMC_D27,DCMI_D10,EVENTOUT", 152 PG9 (io) "PG9/USART6_RX,FMC_NE2/FMC_NCE3,EVENTOUT", 153 PG10 (io) "PG10/LCD_G3,FMC_NCE4_1/FMC_NE3,DCMI_D2,LCD_B2,EVENTOUT", 154 PG11 (io) "PG11/ETH_MII_TX_EN/ETH_RMII_TX_EN,FMC_NCE4_2,DCMI_D3,LCD_B3,EVENTOUT", 155 PG12 (io) "PG12/SPI6_MISO,USART6_RTS,LCD_B4,FMC_NE4,LCD_B1,EVENTOUT", 156 PG13 (io) "PG13/SPI6_SCK,USART6_CTS,ETH_MII_TXD0/ETH_RMII_TXD0,FMC_A24,EVENTOUT", 157 PG14 (io) "PG14/SPI6_MOSI,USART6_TX,ETH_MII_TXD1/ETH_RMII_TXD1,FMC_A25,EVENTOUT", 160 PG15 (io) "PG15/USART6_CTS,FMC_SDNCAS,DCMI_D13,EVENTOUT", 166 BOOT0 (in) "BOOT0/VPP", 171 PDR_ON (in), 173 PI4 (io) "PI4/TIM8_BKIN,FMC_NBL2,DCMI_D5,LCD_B4,EVENTOUT", 174 PI5 (io) "PI5/TIM8_CH1,FMC_NBL3,DCMI_VSYNC,LCD_B5,EVENTOUT", 175 PI6 (io) "PI6/TIM8_CH2,FMC_D28,DCMI_D6,LCD_B6,EVENTOUT", 176 PI7 (io) "PI7/TIM8_CH3,FMC_D29,DCMI_D7,LCD_B7,EVENTOUT"
part C pins: 6 VBAT (power), 14 VSS (power), 15 VDD (power), 22 VSS (power), 23 VDD (power), 36 VDD (power), 37 VSSA (power), 38 VREF+ (power), 39 VDDA (power), 49 VDD (power), 61 VSS (power), 62 VDD (power), 71 VSS (power), 72 VDD (power), 82 VDD (power), 90 VSS (power), 91 VDD (power), 102 VSS (power), 103 VDD (power), 113 VSS (power), 114 VDD (power), 126 VSS (power), 127 VDD (power), 135 VSS (power), 136 VDD (power), 148 VSS (power), 149 VDD (power), 158 VSS (power), 159 VDD (power), 172 VDD (power)

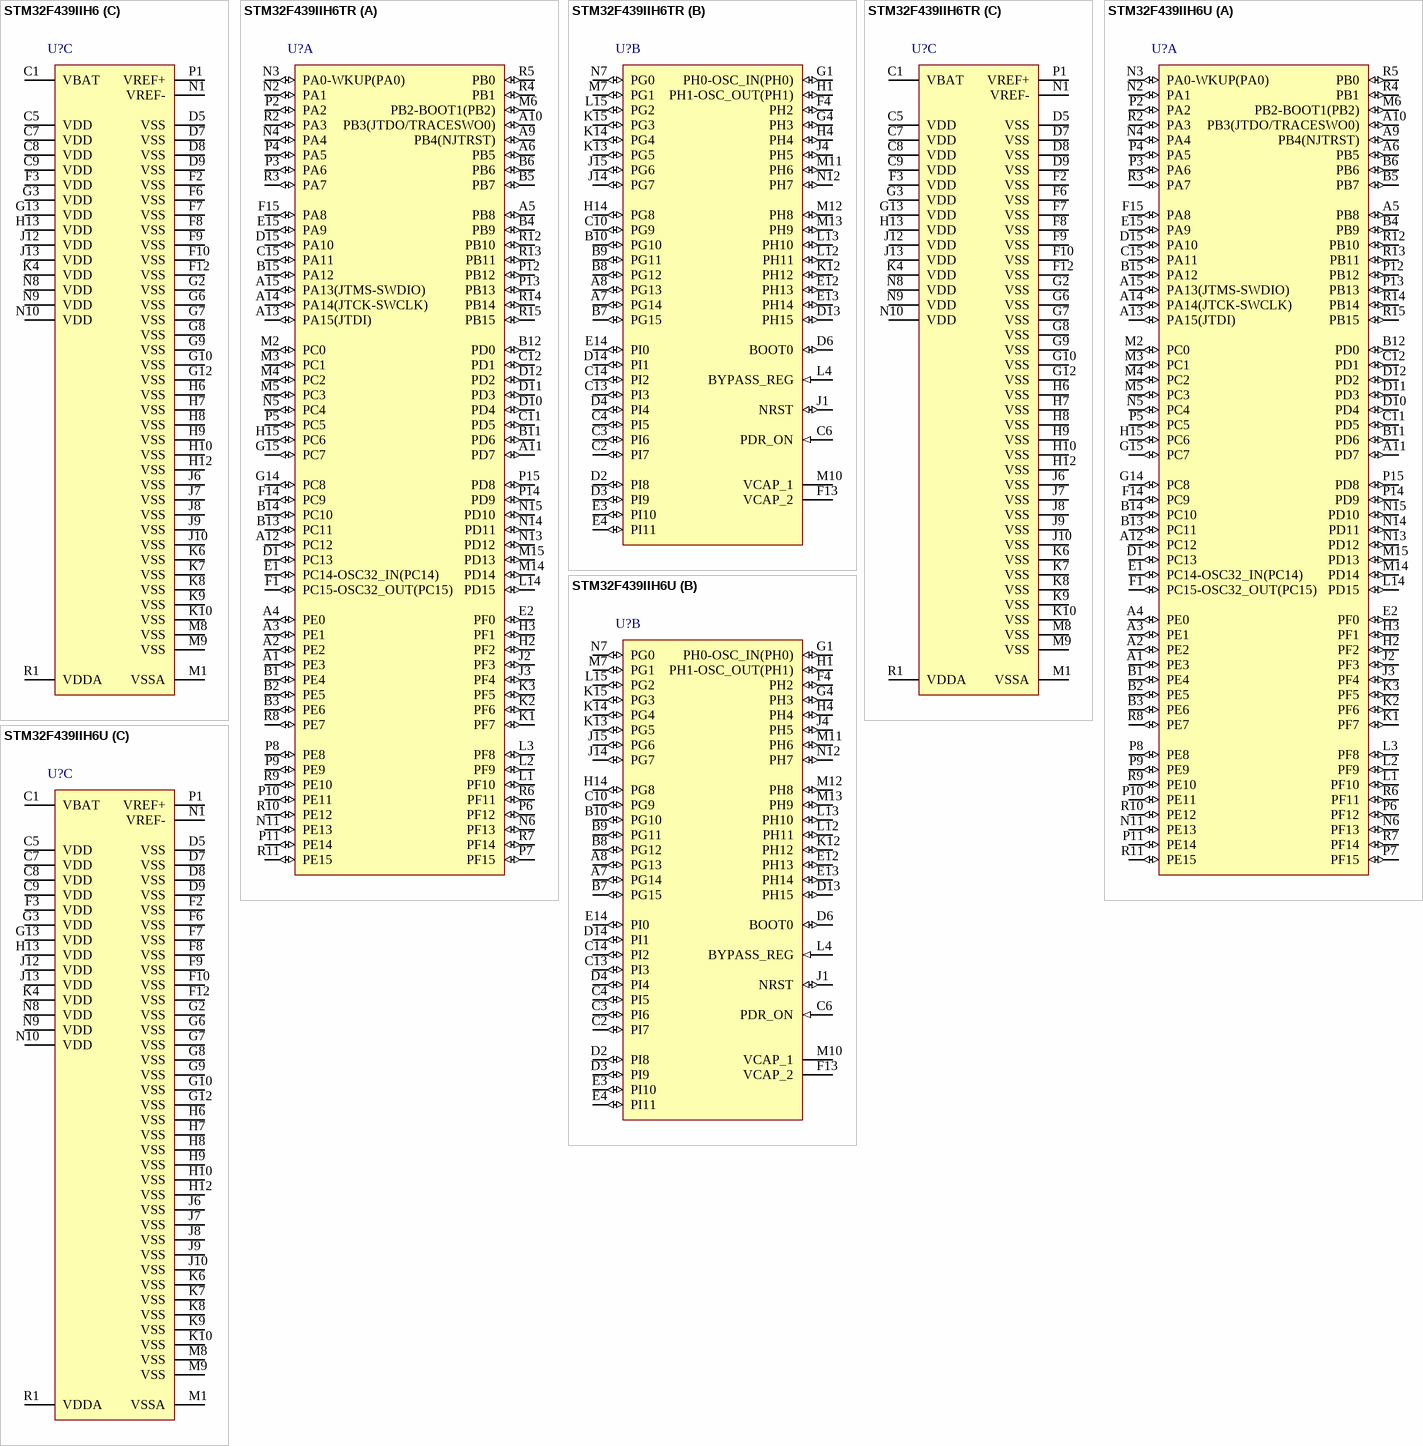
[diagram p34: symbols STM32F439IIH6 to STM32F439IIH6U]